# Altium integrated library Actel eX.IntLib: 132 symbols (part 2 of 6)
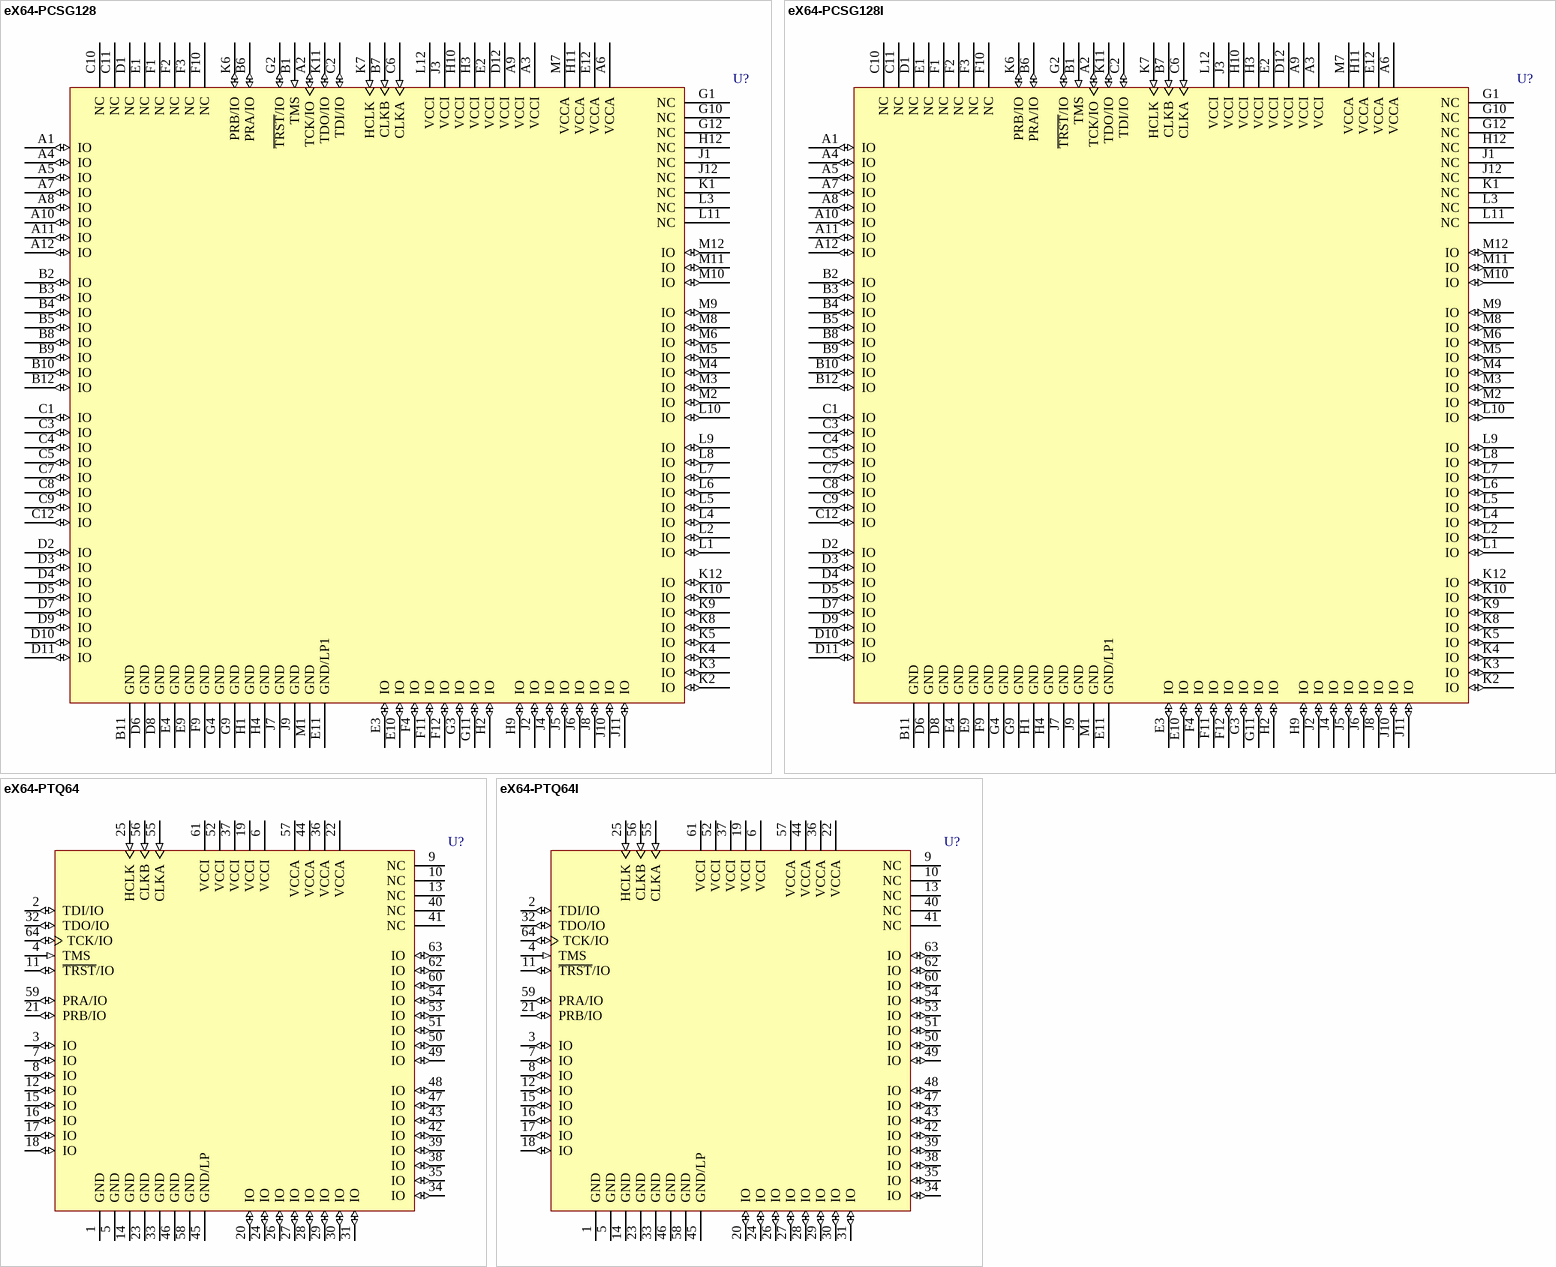
[diagram p39: symbols eX64-PCSG128 to eX64-PTQ64I]

## eX64-PCSG128
designator U?
eX64 FPGA, 84 User IOs, 128-Pin CSP, Speed Grade P, Commercial Grade, Pb-Free; DatasheetVersion: v4.3, Jun-2006; PackageVersion: ver11.2, Nov-2009; PackageReference: CS128; PackageDescription: 128-Ball Chip Scale Package (CS128); Code_JEDEC: MO-205-BD; ComponentLink1Description: Manufacturer URL; ComponentLink1URL: http://www.actel.com/; ComponentLink2Description: eX Datasheet; ComponentLink2URL: http://www.actel.com/documents/eX_DS.pdf; ComponentLink3Description: Package Mechanical Drawings; ComponentLink3URL: http://www.actel.com/documents/PckgMechDrwngs.pdf; ComponentLink4Description: eX Documents; ComponentLink4URL: http://www.actel.com/products/ex/docs.aspx
footprint CS128 (BGA, 128-Leads, Body 11x11mm, Pitch 0.8mm)
pins: A1 IO (io), A2 TCK/IO (io), A3 VCCI (power), A4 IO (io), A5 IO (io), A6 VCCA (power), A7 IO (io), A8 IO (io), A9 VCCI (power), A10 IO (io), A11 IO (io), A12 IO (io), B1 TMS (in), B2 IO (io), B3 IO (io), B4 IO (io), B5 IO (io), B6 PRA/IO (io), B7 CLKB (in), B8 IO (io), B9 IO (io), B10 IO (io), B11 GND (power), B12 IO (io), C1 IO (io), C2 TDI/IO (io), C3 IO (io), C4 IO (io), C5 IO (io), C6 CLKA (in), C7 IO (io), C8 IO (io), C9 IO (io), C10 NC, C11 NC, C12 IO (io), D1 NC, D2 IO (io), D3 IO (io), D4 IO (io), D5 IO (io), D6 GND (power), D7 IO (io), D8 GND (power), D9 IO (io), D10 IO (io), D11 IO (io), D12 VCCI (power), E1 NC, E2 VCCI (power), E3 IO (io), E4 GND (power), E9 GND (power), E10 IO (io), E11 GND/LP1 (power), E12 VCCA (power), F1 NC, F2 NC, F3 NC, F4 IO (io), F9 GND (power), F10 NC, F11 IO (io), F12 IO (io), G1 NC, G2 ~{TRST}/IO (io), G3 IO (io), G4 GND (power), G9 GND (power), G10 NC, G11 IO (io), G12 NC, H1 GND (power), H2 IO (io), H3 VCCI (power), H4 GND (power), H9 IO (io), H10 VCCI (power), H11 VCCA (power), H12 NC, J1 NC, J2 IO (io), J3 VCCI (power), J4 IO (io), J5 IO (io), J6 IO (io), J7 GND (power), J8 IO (io), J9 GND (power), J10 IO (io), J11 IO (io), J12 NC, K1 NC, K2 IO (io), K3 IO (io), K4 IO (io), K5 IO (io), K6 PRB/IO (io), K7 HCLK (in), K8 IO (io), K9 IO (io), K10 IO (io), K11 TDO/IO (io), K12 IO (io), L1 IO (io), L2 IO (io), L3 NC, L4 IO (io), L5 IO (io), L6 IO (io), L7 IO (io), L8 IO (io), L9 IO (io), L10 IO (io), L11 NC, L12 VCCI (power), M1 GND (power), M2 IO (io), M3 IO (io), M4 IO (io), M5 IO (io), M6 IO (io), M7 VCCA (power), M8 IO (io), M9 IO (io), M10 IO (io), M11 IO (io), M12 IO (io)

## eX64-PCSG128I
designator U?
eX64 FPGA, 84 User IOs, 128-Pin CSP, Speed Grade P, Industrial Grade, Pb-Free; DatasheetVersion: v4.3, Jun-2006; PackageVersion: ver11.2, Nov-2009; PackageReference: CS128; PackageDescription: 128-Ball Chip Scale Package (CS128); Code_JEDEC: MO-205-BD; ComponentLink1Description: Manufacturer URL; ComponentLink1URL: http://www.actel.com/; ComponentLink2Description: eX Datasheet; ComponentLink2URL: http://www.actel.com/documents/eX_DS.pdf; ComponentLink3Description: Package Mechanical Drawings; ComponentLink3URL: http://www.actel.com/documents/PckgMechDrwngs.pdf; ComponentLink4Description: eX Documents; ComponentLink4URL: http://www.actel.com/products/ex/docs.aspx
footprint CS128 (BGA, 128-Leads, Body 11x11mm, Pitch 0.8mm)
pins: A1 IO (io), A2 TCK/IO (io), A3 VCCI (power), A4 IO (io), A5 IO (io), A6 VCCA (power), A7 IO (io), A8 IO (io), A9 VCCI (power), A10 IO (io), A11 IO (io), A12 IO (io), B1 TMS (in), B2 IO (io), B3 IO (io), B4 IO (io), B5 IO (io), B6 PRA/IO (io), B7 CLKB (in), B8 IO (io), B9 IO (io), B10 IO (io), B11 GND (power), B12 IO (io), C1 IO (io), C2 TDI/IO (io), C3 IO (io), C4 IO (io), C5 IO (io), C6 CLKA (in), C7 IO (io), C8 IO (io), C9 IO (io), C10 NC, C11 NC, C12 IO (io), D1 NC, D2 IO (io), D3 IO (io), D4 IO (io), D5 IO (io), D6 GND (power), D7 IO (io), D8 GND (power), D9 IO (io), D10 IO (io), D11 IO (io), D12 VCCI (power), E1 NC, E2 VCCI (power), E3 IO (io), E4 GND (power), E9 GND (power), E10 IO (io), E11 GND/LP1 (power), E12 VCCA (power), F1 NC, F2 NC, F3 NC, F4 IO (io), F9 GND (power), F10 NC, F11 IO (io), F12 IO (io), G1 NC, G2 ~{TRST}/IO (io), G3 IO (io), G4 GND (power), G9 GND (power), G10 NC, G11 IO (io), G12 NC, H1 GND (power), H2 IO (io), H3 VCCI (power), H4 GND (power), H9 IO (io), H10 VCCI (power), H11 VCCA (power), H12 NC, J1 NC, J2 IO (io), J3 VCCI (power), J4 IO (io), J5 IO (io), J6 IO (io), J7 GND (power), J8 IO (io), J9 GND (power), J10 IO (io), J11 IO (io), J12 NC, K1 NC, K2 IO (io), K3 IO (io), K4 IO (io), K5 IO (io), K6 PRB/IO (io), K7 HCLK (in), K8 IO (io), K9 IO (io), K10 IO (io), K11 TDO/IO (io), K12 IO (io), L1 IO (io), L2 IO (io), L3 NC, L4 IO (io), L5 IO (io), L6 IO (io), L7 IO (io), L8 IO (io), L9 IO (io), L10 IO (io), L11 NC, L12 VCCI (power), M1 GND (power), M2 IO (io), M3 IO (io), M4 IO (io), M5 IO (io), M6 IO (io), M7 VCCA (power), M8 IO (io), M9 IO (io), M10 IO (io), M11 IO (io), M12 IO (io)

## eX64-PTQ64
designator U?
eX64 FPGA, 41 User IOs, 64-Pin TQFP, Speed Grade P, Commercial Grade; DatasheetVersion: v4.3, Jun-2006; PackageVersion: ver11.2, Nov-2009; PackageReference: TQ64; PackageDescription: 64-Pin Plastic Quad Flat Pack (TQ64); Code_JEDEC: MS-026-BCD; ComponentLink1Description: Manufacturer URL; ComponentLink1URL: http://www.actel.com/; ComponentLink2Description: eX Datasheet; ComponentLink2URL: http://www.actel.com/documents/eX_DS.pdf; ComponentLink3Description: Package Mechanical Drawings; ComponentLink3URL: http://www.actel.com/documents/PckgMechDrwngs.pdf; ComponentLink4Description: eX Documents; ComponentLink4URL: http://www.actel.com/products/ex/docs.aspx
footprint TQ64_N (Thin QFP, 64-Leads, Body 10x10mm, Pitch 0.5mm, IPC Medium Density)
footprint TQ64_L (Thin QFP, 64-Leads, Body 10x10mm, Pitch 0.5mm, IPC High Density)
footprint TQ64_M (Thin QFP, 64-Leads, Body 10x10mm, Pitch 0.5mm, IPC Low Density)
pins: 1 GND (power), 2 TDI/IO (io), 3 IO (io), 4 TMS (in), 5 GND (power), 6 VCCI (power), 7 IO (io), 8 IO (io), 9 NC, 10 NC, 11 ~{TRST}/IO (io), 12 IO (io), 13 NC, 14 GND (power), 15 IO (io), 16 IO (io), 17 IO (io), 18 IO (io), 19 VCCI (power), 20 IO (io), 21 PRB/IO (io), 22 VCCA (power), 23 GND (power), 24 IO (io), 25 HCLK (in), 26 IO (io), 27 IO (io), 28 IO (io), 29 IO (io), 30 IO (io), 31 IO (io), 32 TDO/IO (io), 33 GND (power), 34 IO (io), 35 IO (io), 36 VCCA (power), 37 VCCI (power), 38 IO (io), 39 IO (io), 40 NC, 41 NC, 42 IO (io), 43 IO (io), 44 VCCA (power), 45 GND/LP (power), 46 GND (power), 47 IO (io), 48 IO (io), 49 IO (io), 50 IO (io), 51 IO (io), 52 VCCI (power), 53 IO (io), 54 IO (io), 55 CLKA (in), 56 CLKB (in), 57 VCCA (power), 58 GND (power), 59 PRA/IO (io), 60 IO (io), 61 VCCI (power), 62 IO (io), 63 IO (io), 64 TCK/IO (io)

## eX64-PTQ64I
designator U?
eX64 FPGA, 41 User IOs, 64-Pin TQFP, Speed Grade P, Industrial Grade; DatasheetVersion: v4.3, Jun-2006; PackageVersion: ver11.2, Nov-2009; PackageReference: TQ64; PackageDescription: 64-Pin Plastic Quad Flat Pack (TQ64); Code_JEDEC: MS-026-BCD; ComponentLink1Description: Manufacturer URL; ComponentLink1URL: http://www.actel.com/; ComponentLink2Description: eX Datasheet; ComponentLink2URL: http://www.actel.com/documents/eX_DS.pdf; ComponentLink3Description: Package Mechanical Drawings; ComponentLink3URL: http://www.actel.com/documents/PckgMechDrwngs.pdf; ComponentLink4Description: eX Documents; ComponentLink4URL: http://www.actel.com/products/ex/docs.aspx
footprint TQ64_N (Thin QFP, 64-Leads, Body 10x10mm, Pitch 0.5mm, IPC Medium Density)
footprint TQ64_L (Thin QFP, 64-Leads, Body 10x10mm, Pitch 0.5mm, IPC High Density)
footprint TQ64_M (Thin QFP, 64-Leads, Body 10x10mm, Pitch 0.5mm, IPC Low Density)
pins: 1 GND (power), 2 TDI/IO (io), 3 IO (io), 4 TMS (in), 5 GND (power), 6 VCCI (power), 7 IO (io), 8 IO (io), 9 NC, 10 NC, 11 ~{TRST}/IO (io), 12 IO (io), 13 NC, 14 GND (power), 15 IO (io), 16 IO (io), 17 IO (io), 18 IO (io), 19 VCCI (power), 20 IO (io), 21 PRB/IO (io), 22 VCCA (power), 23 GND (power), 24 IO (io), 25 HCLK (in), 26 IO (io), 27 IO (io), 28 IO (io), 29 IO (io), 30 IO (io), 31 IO (io), 32 TDO/IO (io), 33 GND (power), 34 IO (io), 35 IO (io), 36 VCCA (power), 37 VCCI (power), 38 IO (io), 39 IO (io), 40 NC, 41 NC, 42 IO (io), 43 IO (io), 44 VCCA (power), 45 GND/LP (power), 46 GND (power), 47 IO (io), 48 IO (io), 49 IO (io), 50 IO (io), 51 IO (io), 52 VCCI (power), 53 IO (io), 54 IO (io), 55 CLKA (in), 56 CLKB (in), 57 VCCA (power), 58 GND (power), 59 PRA/IO (io), 60 IO (io), 61 VCCI (power), 62 IO (io), 63 IO (io), 64 TCK/IO (io)

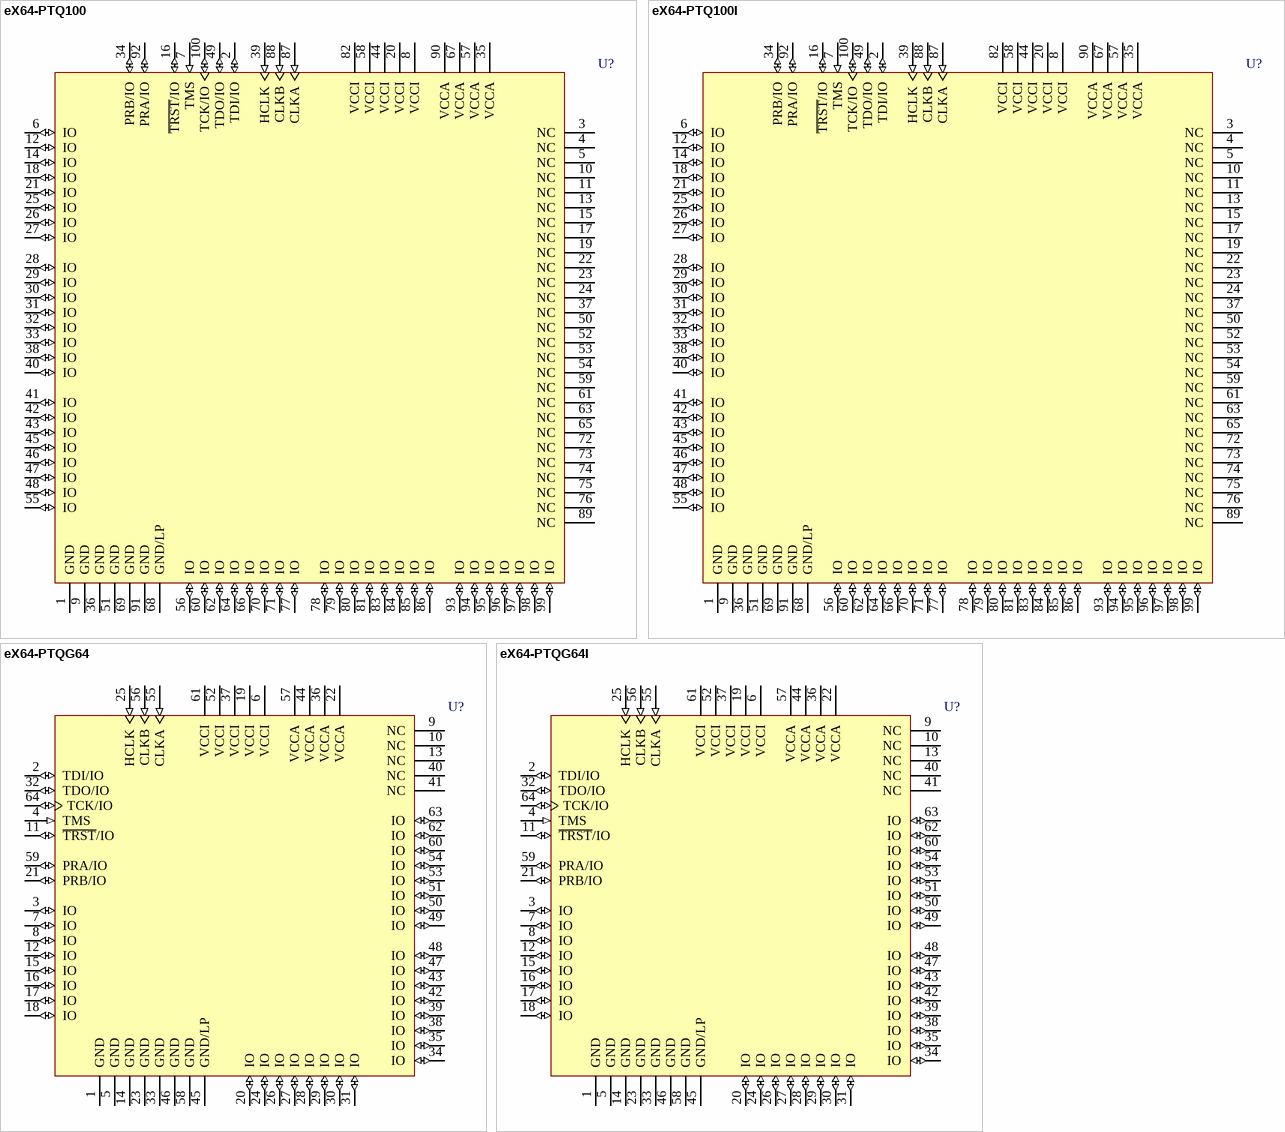
[diagram p7: symbols eX64-PTQ100 to eX64-PTQG64I]

## eX64-PTQ100
designator U?
eX64 FPGA, 56 User IOs, 100-Pin TQFP, Speed Grade P, Commercial Grade; DatasheetVersion: v4.3, Jun-2006; PackageVersion: ver11.2, Nov-2009; PackageReference: TQ100; PackageDescription: 100-Pin Plastic Quad Flat Pack (TQ100); Code_JEDEC: MS-026-BED; ComponentLink1Description: Manufacturer URL; ComponentLink1URL: http://www.actel.com/; ComponentLink2Description: eX Datasheet; ComponentLink2URL: http://www.actel.com/documents/eX_DS.pdf; ComponentLink3Description: Package Mechanical Drawings; ComponentLink3URL: http://www.actel.com/documents/PckgMechDrwngs.pdf; ComponentLink4Description: eX Documents; ComponentLink4URL: http://www.actel.com/products/ex/docs.aspx
footprint TQ100_N (Thin QFP, 100-Leads, Body 14x14mm, Pitch 0.5mm, IPC Medium Density)
footprint TQ100_L (Thin QFP, 100-Leads, Body 14x14mm, Pitch 0.5mm, IPC High Density)
footprint TQ100_M (Thin QFP, 100-Leads, Body 14x14mm, Pitch 0.5mm, IPC Low Density)
pins: 1 GND (power), 2 TDI/IO (io), 3 NC, 4 NC, 5 NC, 6 IO (io), 7 TMS (in), 8 VCCI (power), 9 GND (power), 10 NC, 11 NC, 12 IO (io), 13 NC, 14 IO (io), 15 NC, 16 ~{TRST}/IO (io), 17 NC, 18 IO (io), 19 NC, 20 VCCI (power), 21 IO (io), 22 NC, 23 NC, 24 NC, 25 IO (io), 26 IO (io), 27 IO (io), 28 IO (io), 29 IO (io), 30 IO (io), 31 IO (io), 32 IO (io), 33 IO (io), 34 PRB/IO (io), 35 VCCA (power), 36 GND (power), 37 NC, 38 IO (io), 39 HCLK (in), 40 IO (io), 41 IO (io), 42 IO (io), 43 IO (io), 44 VCCI (power), 45 IO (io), 46 IO (io), 47 IO (io), 48 IO (io), 49 TDO/IO (io), 50 NC, 51 GND (power), 52 NC, 53 NC, 54 NC, 55 IO (io), 56 IO (io), 57 VCCA (power), 58 VCCI (power), 59 NC, 60 IO (io), 61 NC, 62 IO (io), 63 NC, 64 IO (io), 65 NC, 66 IO (io), 67 VCCA (power), 68 GND/LP (power), 69 GND (power), 70 IO (io), 71 IO (io), 72 NC, 73 NC, 74 NC, 75 NC, 76 NC, 77 IO (io), 78 IO (io), 79 IO (io), 80 IO (io), 81 IO (io), 82 VCCI (power), 83 IO (io), 84 IO (io), 85 IO (io), 86 IO (io), 87 CLKA (in), 88 CLKB (in), 89 NC, 90 VCCA (power), 91 GND (power), 92 PRA/IO (io), 93 IO (io), 94 IO (io), 95 IO (io), 96 IO (io), 97 IO (io), 98 IO (io), 99 IO (io), 100 TCK/IO (io)

## eX64-PTQ100I
designator U?
eX64 FPGA, 56 User IOs, 100-Pin TQFP, Speed Grade P, Industrial Grade; DatasheetVersion: v4.3, Jun-2006; PackageVersion: ver11.2, Nov-2009; PackageReference: TQ100; PackageDescription: 100-Pin Plastic Quad Flat Pack (TQ100); Code_JEDEC: MS-026-BED; ComponentLink1Description: Manufacturer URL; ComponentLink1URL: http://www.actel.com/; ComponentLink2Description: eX Datasheet; ComponentLink2URL: http://www.actel.com/documents/eX_DS.pdf; ComponentLink3Description: Package Mechanical Drawings; ComponentLink3URL: http://www.actel.com/documents/PckgMechDrwngs.pdf; ComponentLink4Description: eX Documents; ComponentLink4URL: http://www.actel.com/products/ex/docs.aspx
footprint TQ100_N (Thin QFP, 100-Leads, Body 14x14mm, Pitch 0.5mm, IPC Medium Density)
footprint TQ100_L (Thin QFP, 100-Leads, Body 14x14mm, Pitch 0.5mm, IPC High Density)
footprint TQ100_M (Thin QFP, 100-Leads, Body 14x14mm, Pitch 0.5mm, IPC Low Density)
pins: 1 GND (power), 2 TDI/IO (io), 3 NC, 4 NC, 5 NC, 6 IO (io), 7 TMS (in), 8 VCCI (power), 9 GND (power), 10 NC, 11 NC, 12 IO (io), 13 NC, 14 IO (io), 15 NC, 16 ~{TRST}/IO (io), 17 NC, 18 IO (io), 19 NC, 20 VCCI (power), 21 IO (io), 22 NC, 23 NC, 24 NC, 25 IO (io), 26 IO (io), 27 IO (io), 28 IO (io), 29 IO (io), 30 IO (io), 31 IO (io), 32 IO (io), 33 IO (io), 34 PRB/IO (io), 35 VCCA (power), 36 GND (power), 37 NC, 38 IO (io), 39 HCLK (in), 40 IO (io), 41 IO (io), 42 IO (io), 43 IO (io), 44 VCCI (power), 45 IO (io), 46 IO (io), 47 IO (io), 48 IO (io), 49 TDO/IO (io), 50 NC, 51 GND (power), 52 NC, 53 NC, 54 NC, 55 IO (io), 56 IO (io), 57 VCCA (power), 58 VCCI (power), 59 NC, 60 IO (io), 61 NC, 62 IO (io), 63 NC, 64 IO (io), 65 NC, 66 IO (io), 67 VCCA (power), 68 GND/LP (power), 69 GND (power), 70 IO (io), 71 IO (io), 72 NC, 73 NC, 74 NC, 75 NC, 76 NC, 77 IO (io), 78 IO (io), 79 IO (io), 80 IO (io), 81 IO (io), 82 VCCI (power), 83 IO (io), 84 IO (io), 85 IO (io), 86 IO (io), 87 CLKA (in), 88 CLKB (in), 89 NC, 90 VCCA (power), 91 GND (power), 92 PRA/IO (io), 93 IO (io), 94 IO (io), 95 IO (io), 96 IO (io), 97 IO (io), 98 IO (io), 99 IO (io), 100 TCK/IO (io)

## eX64-PTQG64
designator U?
eX64 FPGA, 41 User IOs, 64-Pin TQFP, Speed Grade P, Commercial Grade, Pb-Free; DatasheetVersion: v4.3, Jun-2006; PackageVersion: ver11.2, Nov-2009; PackageReference: TQ64; PackageDescription: 64-Pin Plastic Quad Flat Pack (TQ64); Code_JEDEC: MS-026-BCD; ComponentLink1Description: Manufacturer URL; ComponentLink1URL: http://www.actel.com/; ComponentLink2Description: eX Datasheet; ComponentLink2URL: http://www.actel.com/documents/eX_DS.pdf; ComponentLink3Description: Package Mechanical Drawings; ComponentLink3URL: http://www.actel.com/documents/PckgMechDrwngs.pdf; ComponentLink4Description: eX Documents; ComponentLink4URL: http://www.actel.com/products/ex/docs.aspx
footprint TQ64_N (Thin QFP, 64-Leads, Body 10x10mm, Pitch 0.5mm, IPC Medium Density)
footprint TQ64_L (Thin QFP, 64-Leads, Body 10x10mm, Pitch 0.5mm, IPC High Density)
footprint TQ64_M (Thin QFP, 64-Leads, Body 10x10mm, Pitch 0.5mm, IPC Low Density)
pins: 1 GND (power), 2 TDI/IO (io), 3 IO (io), 4 TMS (in), 5 GND (power), 6 VCCI (power), 7 IO (io), 8 IO (io), 9 NC, 10 NC, 11 ~{TRST}/IO (io), 12 IO (io), 13 NC, 14 GND (power), 15 IO (io), 16 IO (io), 17 IO (io), 18 IO (io), 19 VCCI (power), 20 IO (io), 21 PRB/IO (io), 22 VCCA (power), 23 GND (power), 24 IO (io), 25 HCLK (in), 26 IO (io), 27 IO (io), 28 IO (io), 29 IO (io), 30 IO (io), 31 IO (io), 32 TDO/IO (io), 33 GND (power), 34 IO (io), 35 IO (io), 36 VCCA (power), 37 VCCI (power), 38 IO (io), 39 IO (io), 40 NC, 41 NC, 42 IO (io), 43 IO (io), 44 VCCA (power), 45 GND/LP (power), 46 GND (power), 47 IO (io), 48 IO (io), 49 IO (io), 50 IO (io), 51 IO (io), 52 VCCI (power), 53 IO (io), 54 IO (io), 55 CLKA (in), 56 CLKB (in), 57 VCCA (power), 58 GND (power), 59 PRA/IO (io), 60 IO (io), 61 VCCI (power), 62 IO (io), 63 IO (io), 64 TCK/IO (io)

## eX64-PTQG64I
designator U?
eX64 FPGA, 41 User IOs, 64-Pin TQFP, Speed Grade P, Industrial Grade, Pb-Free; DatasheetVersion: v4.3, Jun-2006; PackageVersion: ver11.2, Nov-2009; PackageReference: TQ64; PackageDescription: 64-Pin Plastic Quad Flat Pack (TQ64); Code_JEDEC: MS-026-BCD; ComponentLink1Description: Manufacturer URL; ComponentLink1URL: http://www.actel.com/; ComponentLink2Description: eX Datasheet; ComponentLink2URL: http://www.actel.com/documents/eX_DS.pdf; ComponentLink3Description: Package Mechanical Drawings; ComponentLink3URL: http://www.actel.com/documents/PckgMechDrwngs.pdf; ComponentLink4Description: eX Documents; ComponentLink4URL: http://www.actel.com/products/ex/docs.aspx
footprint TQ64_N (Thin QFP, 64-Leads, Body 10x10mm, Pitch 0.5mm, IPC Medium Density)
footprint TQ64_L (Thin QFP, 64-Leads, Body 10x10mm, Pitch 0.5mm, IPC High Density)
footprint TQ64_M (Thin QFP, 64-Leads, Body 10x10mm, Pitch 0.5mm, IPC Low Density)
pins: 1 GND (power), 2 TDI/IO (io), 3 IO (io), 4 TMS (in), 5 GND (power), 6 VCCI (power), 7 IO (io), 8 IO (io), 9 NC, 10 NC, 11 ~{TRST}/IO (io), 12 IO (io), 13 NC, 14 GND (power), 15 IO (io), 16 IO (io), 17 IO (io), 18 IO (io), 19 VCCI (power), 20 IO (io), 21 PRB/IO (io), 22 VCCA (power), 23 GND (power), 24 IO (io), 25 HCLK (in), 26 IO (io), 27 IO (io), 28 IO (io), 29 IO (io), 30 IO (io), 31 IO (io), 32 TDO/IO (io), 33 GND (power), 34 IO (io), 35 IO (io), 36 VCCA (power), 37 VCCI (power), 38 IO (io), 39 IO (io), 40 NC, 41 NC, 42 IO (io), 43 IO (io), 44 VCCA (power), 45 GND/LP (power), 46 GND (power), 47 IO (io), 48 IO (io), 49 IO (io), 50 IO (io), 51 IO (io), 52 VCCI (power), 53 IO (io), 54 IO (io), 55 CLKA (in), 56 CLKB (in), 57 VCCA (power), 58 GND (power), 59 PRA/IO (io), 60 IO (io), 61 VCCI (power), 62 IO (io), 63 IO (io), 64 TCK/IO (io)

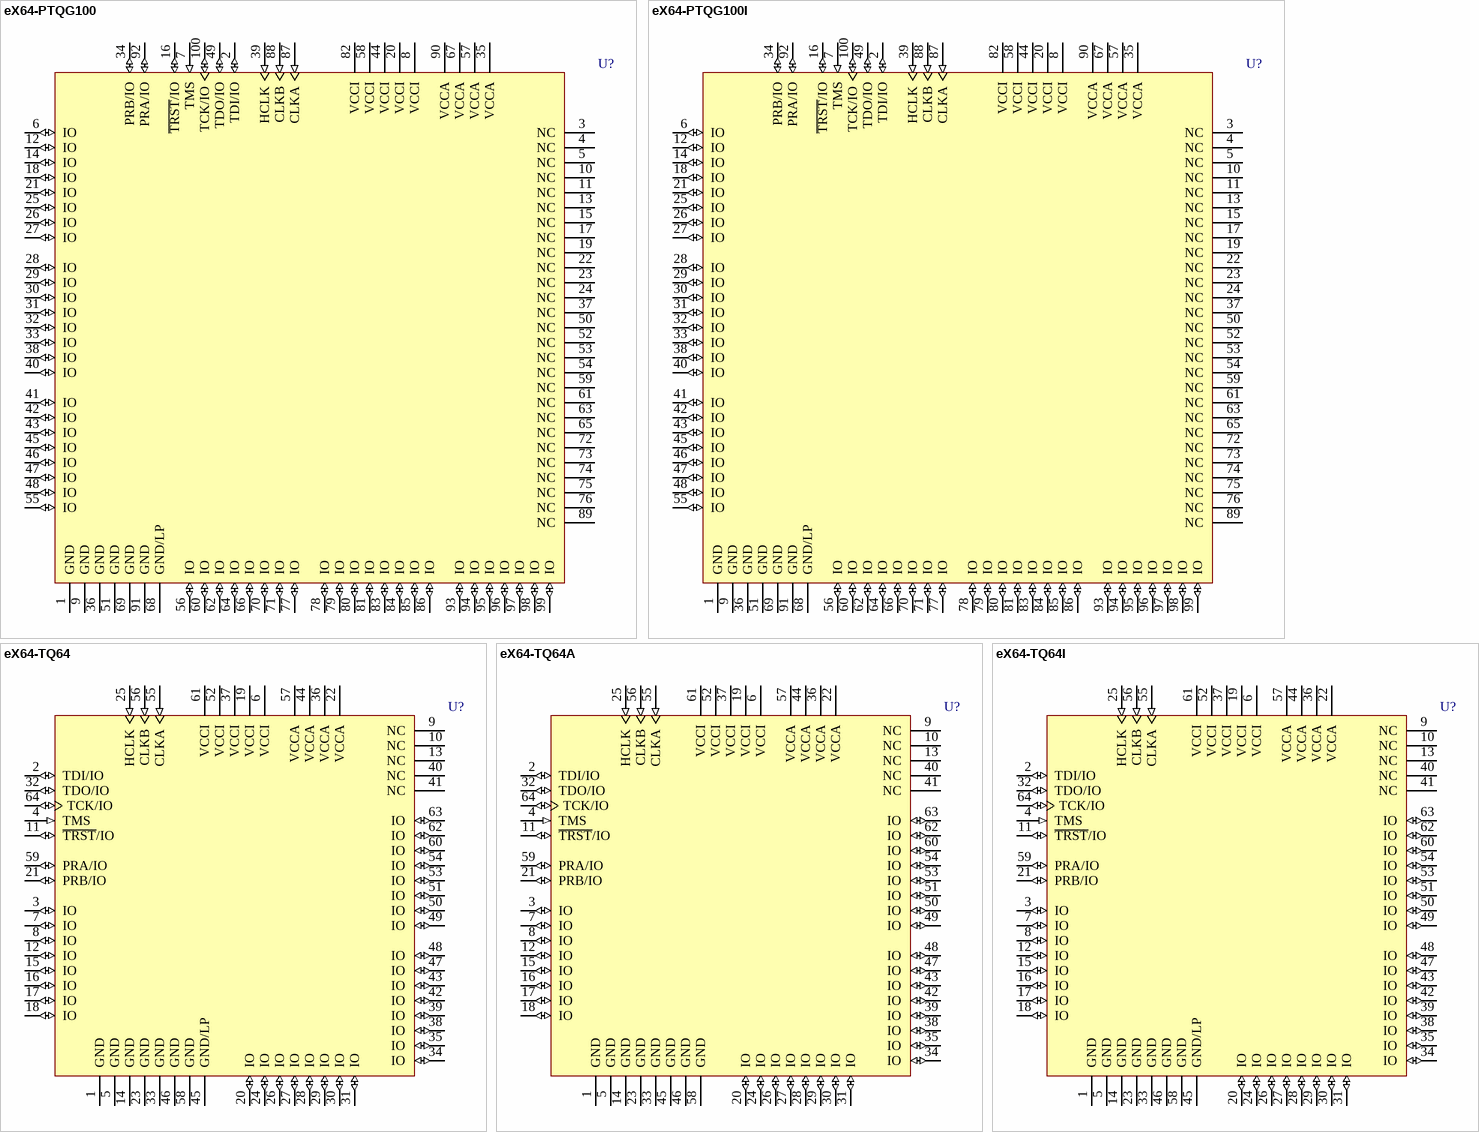
[diagram p8: symbols eX64-PTQG100 to eX64-TQ64I]

## eX64-PTQG100
designator U?
eX64 FPGA, 56 User IOs, 100-Pin TQFP, Speed Grade P, Commercial Grade, Pb-Free; DatasheetVersion: v4.3, Jun-2006; PackageVersion: ver11.2, Nov-2009; PackageReference: TQ100; PackageDescription: 100-Pin Plastic Quad Flat Pack (TQ100); Code_JEDEC: MS-026-BED; ComponentLink1Description: Manufacturer URL; ComponentLink1URL: http://www.actel.com/; ComponentLink2Description: eX Datasheet; ComponentLink2URL: http://www.actel.com/documents/eX_DS.pdf; ComponentLink3Description: Package Mechanical Drawings; ComponentLink3URL: http://www.actel.com/documents/PckgMechDrwngs.pdf; ComponentLink4Description: eX Documents; ComponentLink4URL: http://www.actel.com/products/ex/docs.aspx
footprint TQ100_N (Thin QFP, 100-Leads, Body 14x14mm, Pitch 0.5mm, IPC Medium Density)
footprint TQ100_L (Thin QFP, 100-Leads, Body 14x14mm, Pitch 0.5mm, IPC High Density)
footprint TQ100_M (Thin QFP, 100-Leads, Body 14x14mm, Pitch 0.5mm, IPC Low Density)
pins: 1 GND (power), 2 TDI/IO (io), 3 NC, 4 NC, 5 NC, 6 IO (io), 7 TMS (in), 8 VCCI (power), 9 GND (power), 10 NC, 11 NC, 12 IO (io), 13 NC, 14 IO (io), 15 NC, 16 ~{TRST}/IO (io), 17 NC, 18 IO (io), 19 NC, 20 VCCI (power), 21 IO (io), 22 NC, 23 NC, 24 NC, 25 IO (io), 26 IO (io), 27 IO (io), 28 IO (io), 29 IO (io), 30 IO (io), 31 IO (io), 32 IO (io), 33 IO (io), 34 PRB/IO (io), 35 VCCA (power), 36 GND (power), 37 NC, 38 IO (io), 39 HCLK (in), 40 IO (io), 41 IO (io), 42 IO (io), 43 IO (io), 44 VCCI (power), 45 IO (io), 46 IO (io), 47 IO (io), 48 IO (io), 49 TDO/IO (io), 50 NC, 51 GND (power), 52 NC, 53 NC, 54 NC, 55 IO (io), 56 IO (io), 57 VCCA (power), 58 VCCI (power), 59 NC, 60 IO (io), 61 NC, 62 IO (io), 63 NC, 64 IO (io), 65 NC, 66 IO (io), 67 VCCA (power), 68 GND/LP (power), 69 GND (power), 70 IO (io), 71 IO (io), 72 NC, 73 NC, 74 NC, 75 NC, 76 NC, 77 IO (io), 78 IO (io), 79 IO (io), 80 IO (io), 81 IO (io), 82 VCCI (power), 83 IO (io), 84 IO (io), 85 IO (io), 86 IO (io), 87 CLKA (in), 88 CLKB (in), 89 NC, 90 VCCA (power), 91 GND (power), 92 PRA/IO (io), 93 IO (io), 94 IO (io), 95 IO (io), 96 IO (io), 97 IO (io), 98 IO (io), 99 IO (io), 100 TCK/IO (io)

## eX64-PTQG100I
designator U?
eX64 FPGA, 56 User IOs, 100-Pin TQFP, Speed Grade P, Industrial Grade, Pb-Free; DatasheetVersion: v4.3, Jun-2006; PackageVersion: ver11.2, Nov-2009; PackageReference: TQ100; PackageDescription: 100-Pin Plastic Quad Flat Pack (TQ100); Code_JEDEC: MS-026-BED; ComponentLink1Description: Manufacturer URL; ComponentLink1URL: http://www.actel.com/; ComponentLink2Description: eX Datasheet; ComponentLink2URL: http://www.actel.com/documents/eX_DS.pdf; ComponentLink3Description: Package Mechanical Drawings; ComponentLink3URL: http://www.actel.com/documents/PckgMechDrwngs.pdf; ComponentLink4Description: eX Documents; ComponentLink4URL: http://www.actel.com/products/ex/docs.aspx
footprint TQ100_N (Thin QFP, 100-Leads, Body 14x14mm, Pitch 0.5mm, IPC Medium Density)
footprint TQ100_L (Thin QFP, 100-Leads, Body 14x14mm, Pitch 0.5mm, IPC High Density)
footprint TQ100_M (Thin QFP, 100-Leads, Body 14x14mm, Pitch 0.5mm, IPC Low Density)
pins: 1 GND (power), 2 TDI/IO (io), 3 NC, 4 NC, 5 NC, 6 IO (io), 7 TMS (in), 8 VCCI (power), 9 GND (power), 10 NC, 11 NC, 12 IO (io), 13 NC, 14 IO (io), 15 NC, 16 ~{TRST}/IO (io), 17 NC, 18 IO (io), 19 NC, 20 VCCI (power), 21 IO (io), 22 NC, 23 NC, 24 NC, 25 IO (io), 26 IO (io), 27 IO (io), 28 IO (io), 29 IO (io), 30 IO (io), 31 IO (io), 32 IO (io), 33 IO (io), 34 PRB/IO (io), 35 VCCA (power), 36 GND (power), 37 NC, 38 IO (io), 39 HCLK (in), 40 IO (io), 41 IO (io), 42 IO (io), 43 IO (io), 44 VCCI (power), 45 IO (io), 46 IO (io), 47 IO (io), 48 IO (io), 49 TDO/IO (io), 50 NC, 51 GND (power), 52 NC, 53 NC, 54 NC, 55 IO (io), 56 IO (io), 57 VCCA (power), 58 VCCI (power), 59 NC, 60 IO (io), 61 NC, 62 IO (io), 63 NC, 64 IO (io), 65 NC, 66 IO (io), 67 VCCA (power), 68 GND/LP (power), 69 GND (power), 70 IO (io), 71 IO (io), 72 NC, 73 NC, 74 NC, 75 NC, 76 NC, 77 IO (io), 78 IO (io), 79 IO (io), 80 IO (io), 81 IO (io), 82 VCCI (power), 83 IO (io), 84 IO (io), 85 IO (io), 86 IO (io), 87 CLKA (in), 88 CLKB (in), 89 NC, 90 VCCA (power), 91 GND (power), 92 PRA/IO (io), 93 IO (io), 94 IO (io), 95 IO (io), 96 IO (io), 97 IO (io), 98 IO (io), 99 IO (io), 100 TCK/IO (io)

## eX64-TQ64
designator U?
eX64 FPGA, 41 User IOs, 64-Pin TQFP, Speed Grade Standard, Commercial Grade; DatasheetVersion: v4.3, Jun-2006; PackageVersion: ver11.2, Nov-2009; PackageReference: TQ64; PackageDescription: 64-Pin Plastic Quad Flat Pack (TQ64); Code_JEDEC: MS-026-BCD; ComponentLink1Description: Manufacturer URL; ComponentLink1URL: http://www.actel.com/; ComponentLink2Description: eX Datasheet; ComponentLink2URL: http://www.actel.com/documents/eX_DS.pdf; ComponentLink3Description: Package Mechanical Drawings; ComponentLink3URL: http://www.actel.com/documents/PckgMechDrwngs.pdf; ComponentLink4Description: eX Documents; ComponentLink4URL: http://www.actel.com/products/ex/docs.aspx
footprint TQ64_N (Thin QFP, 64-Leads, Body 10x10mm, Pitch 0.5mm, IPC Medium Density)
footprint TQ64_L (Thin QFP, 64-Leads, Body 10x10mm, Pitch 0.5mm, IPC High Density)
footprint TQ64_M (Thin QFP, 64-Leads, Body 10x10mm, Pitch 0.5mm, IPC Low Density)
pins: 1 GND (power), 2 TDI/IO (io), 3 IO (io), 4 TMS (in), 5 GND (power), 6 VCCI (power), 7 IO (io), 8 IO (io), 9 NC, 10 NC, 11 ~{TRST}/IO (io), 12 IO (io), 13 NC, 14 GND (power), 15 IO (io), 16 IO (io), 17 IO (io), 18 IO (io), 19 VCCI (power), 20 IO (io), 21 PRB/IO (io), 22 VCCA (power), 23 GND (power), 24 IO (io), 25 HCLK (in), 26 IO (io), 27 IO (io), 28 IO (io), 29 IO (io), 30 IO (io), 31 IO (io), 32 TDO/IO (io), 33 GND (power), 34 IO (io), 35 IO (io), 36 VCCA (power), 37 VCCI (power), 38 IO (io), 39 IO (io), 40 NC, 41 NC, 42 IO (io), 43 IO (io), 44 VCCA (power), 45 GND/LP (power), 46 GND (power), 47 IO (io), 48 IO (io), 49 IO (io), 50 IO (io), 51 IO (io), 52 VCCI (power), 53 IO (io), 54 IO (io), 55 CLKA (in), 56 CLKB (in), 57 VCCA (power), 58 GND (power), 59 PRA/IO (io), 60 IO (io), 61 VCCI (power), 62 IO (io), 63 IO (io), 64 TCK/IO (io)

## eX64-TQ64A
designator U?
eX64 FPGA, 41 User IOs, 64-Pin TQFP, Speed Grade Standard, Automotive Grade; DatasheetVersion: v3.2, Jun-2006; PackageVersion: ver11.2, Nov-2009; PackageReference: TQ64; PackageDescription: 64-Pin Plastic Quad Flat Pack (TQ64); Code_JEDEC: MS-026-BCD; ComponentLink1Description: Manufacturer URL; ComponentLink1URL: http://www.actel.com/; ComponentLink2Description: eX Datasheet; ComponentLink2URL: http://www.actel.com/documents/MX_Auto_DS.pdf; ComponentLink3Description: Package Mechanical Drawings; ComponentLink3URL: http://www.actel.com/documents/PckgMechDrwngs.pdf; ComponentLink4Description: eX Documents; ComponentLink4URL: http://www.actel.com/products/ex/docs.aspx
footprint TQ64_N (Thin QFP, 64-Leads, Body 10x10mm, Pitch 0.5mm, IPC Medium Density)
footprint TQ64_L (Thin QFP, 64-Leads, Body 10x10mm, Pitch 0.5mm, IPC High Density)
footprint TQ64_M (Thin QFP, 64-Leads, Body 10x10mm, Pitch 0.5mm, IPC Low Density)
pins: 1 GND (power), 2 TDI/IO (io), 3 IO (io), 4 TMS (in), 5 GND (power), 6 VCCI (power), 7 IO (io), 8 IO (io), 9 NC, 10 NC, 11 ~{TRST}/IO (io), 12 IO (io), 13 NC, 14 GND (power), 15 IO (io), 16 IO (io), 17 IO (io), 18 IO (io), 19 VCCI (power), 20 IO (io), 21 PRB/IO (io), 22 VCCA (power), 23 GND (power), 24 IO (io), 25 HCLK (in), 26 IO (io), 27 IO (io), 28 IO (io), 29 IO (io), 30 IO (io), 31 IO (io), 32 TDO/IO (io), 33 GND (power), 34 IO (io), 35 IO (io), 36 VCCA (power), 37 VCCI (power), 38 IO (io), 39 IO (io), 40 NC, 41 NC, 42 IO (io), 43 IO (io), 44 VCCA (power), 45 GND (power), 46 GND (power), 47 IO (io), 48 IO (io), 49 IO (io), 50 IO (io), 51 IO (io), 52 VCCI (power), 53 IO (io), 54 IO (io), 55 CLKA (in), 56 CLKB (in), 57 VCCA (power), 58 GND (power), 59 PRA/IO (io), 60 IO (io), 61 VCCI (power), 62 IO (io), 63 IO (io), 64 TCK/IO (io)

## eX64-TQ64I
designator U?
eX64 FPGA, 41 User IOs, 64-Pin TQFP, Speed Grade Standard, Industrial Grade; DatasheetVersion: v4.3, Jun-2006; PackageVersion: ver11.2, Nov-2009; PackageReference: TQ64; PackageDescription: 64-Pin Plastic Quad Flat Pack (TQ64); Code_JEDEC: MS-026-BCD; ComponentLink1Description: Manufacturer URL; ComponentLink1URL: http://www.actel.com/; ComponentLink2Description: eX Datasheet; ComponentLink2URL: http://www.actel.com/documents/eX_DS.pdf; ComponentLink3Description: Package Mechanical Drawings; ComponentLink3URL: http://www.actel.com/documents/PckgMechDrwngs.pdf; ComponentLink4Description: eX Documents; ComponentLink4URL: http://www.actel.com/products/ex/docs.aspx
footprint TQ64_N (Thin QFP, 64-Leads, Body 10x10mm, Pitch 0.5mm, IPC Medium Density)
footprint TQ64_L (Thin QFP, 64-Leads, Body 10x10mm, Pitch 0.5mm, IPC High Density)
footprint TQ64_M (Thin QFP, 64-Leads, Body 10x10mm, Pitch 0.5mm, IPC Low Density)
pins: 1 GND (power), 2 TDI/IO (io), 3 IO (io), 4 TMS (in), 5 GND (power), 6 VCCI (power), 7 IO (io), 8 IO (io), 9 NC, 10 NC, 11 ~{TRST}/IO (io), 12 IO (io), 13 NC, 14 GND (power), 15 IO (io), 16 IO (io), 17 IO (io), 18 IO (io), 19 VCCI (power), 20 IO (io), 21 PRB/IO (io), 22 VCCA (power), 23 GND (power), 24 IO (io), 25 HCLK (in), 26 IO (io), 27 IO (io), 28 IO (io), 29 IO (io), 30 IO (io), 31 IO (io), 32 TDO/IO (io), 33 GND (power), 34 IO (io), 35 IO (io), 36 VCCA (power), 37 VCCI (power), 38 IO (io), 39 IO (io), 40 NC, 41 NC, 42 IO (io), 43 IO (io), 44 VCCA (power), 45 GND/LP (power), 46 GND (power), 47 IO (io), 48 IO (io), 49 IO (io), 50 IO (io), 51 IO (io), 52 VCCI (power), 53 IO (io), 54 IO (io), 55 CLKA (in), 56 CLKB (in), 57 VCCA (power), 58 GND (power), 59 PRA/IO (io), 60 IO (io), 61 VCCI (power), 62 IO (io), 63 IO (io), 64 TCK/IO (io)

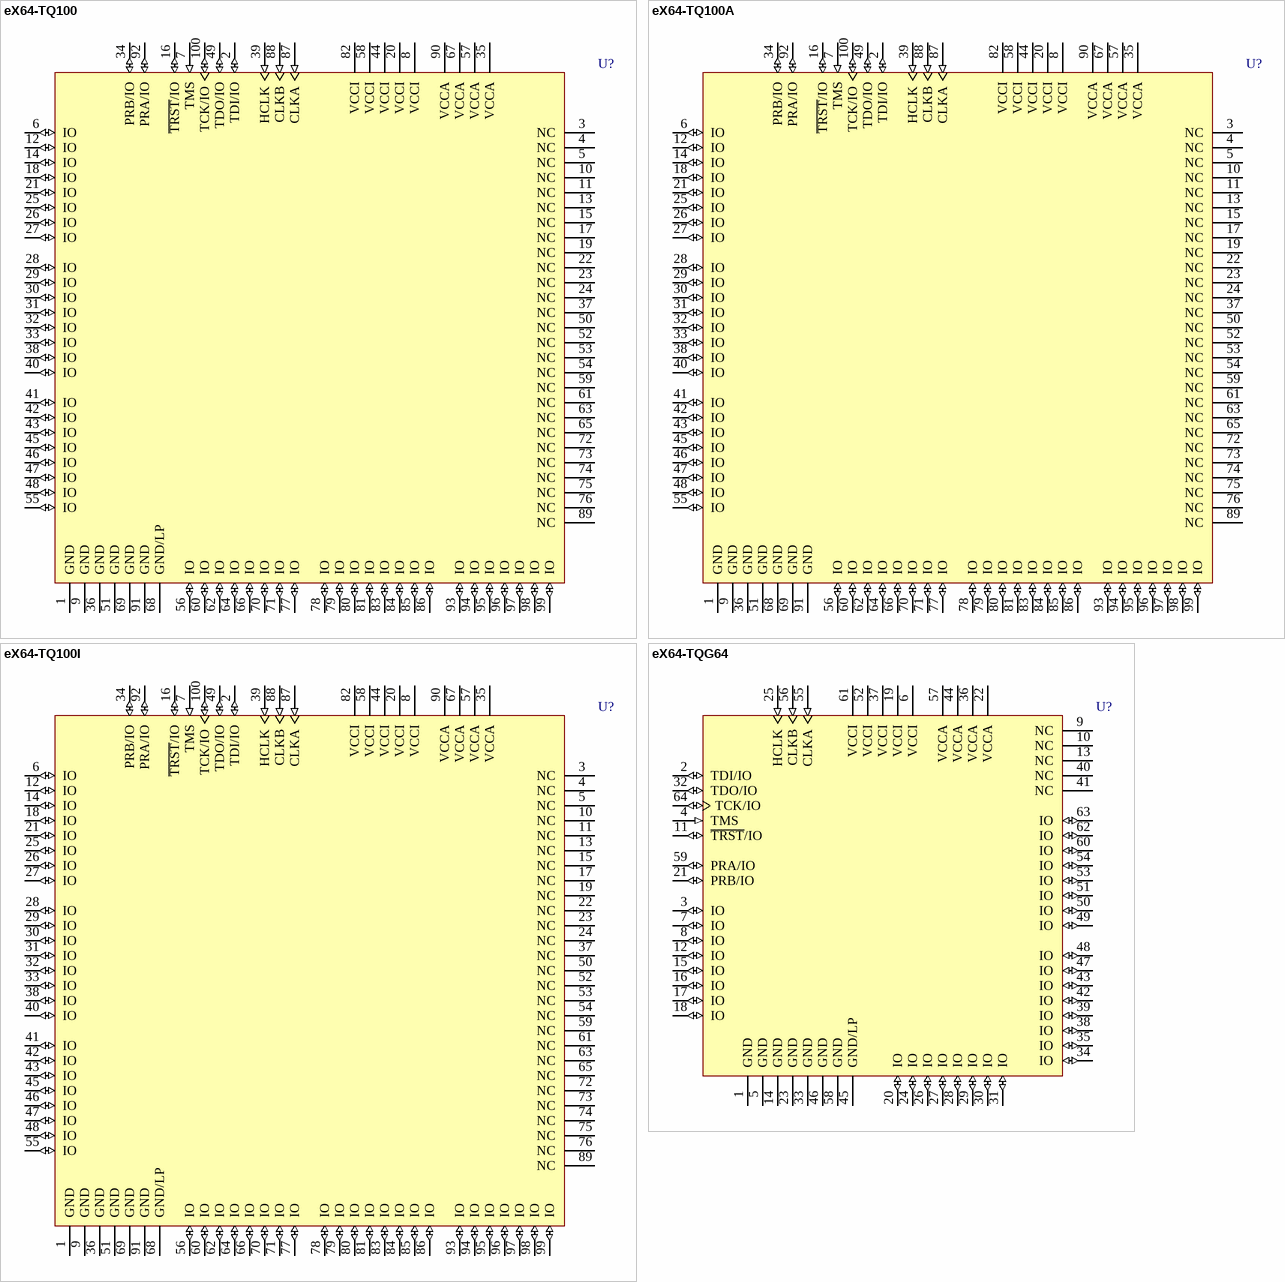
[diagram p9: symbols eX64-TQ100 to eX64-TQG64]

## eX64-TQ100
designator U?
eX64 FPGA, 56 User IOs, 100-Pin TQFP, Speed Grade Standard, Commercial Grade; DatasheetVersion: v4.3, Jun-2006; PackageVersion: ver11.2, Nov-2009; PackageReference: TQ100; PackageDescription: 100-Pin Plastic Quad Flat Pack (TQ100); Code_JEDEC: MS-026-BED; ComponentLink1Description: Manufacturer URL; ComponentLink1URL: http://www.actel.com/; ComponentLink2Description: eX Datasheet; ComponentLink2URL: http://www.actel.com/documents/eX_DS.pdf; ComponentLink3Description: Package Mechanical Drawings; ComponentLink3URL: http://www.actel.com/documents/PckgMechDrwngs.pdf; ComponentLink4Description: eX Documents; ComponentLink4URL: http://www.actel.com/products/ex/docs.aspx
footprint TQ100_N (Thin QFP, 100-Leads, Body 14x14mm, Pitch 0.5mm, IPC Medium Density)
footprint TQ100_L (Thin QFP, 100-Leads, Body 14x14mm, Pitch 0.5mm, IPC High Density)
footprint TQ100_M (Thin QFP, 100-Leads, Body 14x14mm, Pitch 0.5mm, IPC Low Density)
pins: 1 GND (power), 2 TDI/IO (io), 3 NC, 4 NC, 5 NC, 6 IO (io), 7 TMS (in), 8 VCCI (power), 9 GND (power), 10 NC, 11 NC, 12 IO (io), 13 NC, 14 IO (io), 15 NC, 16 ~{TRST}/IO (io), 17 NC, 18 IO (io), 19 NC, 20 VCCI (power), 21 IO (io), 22 NC, 23 NC, 24 NC, 25 IO (io), 26 IO (io), 27 IO (io), 28 IO (io), 29 IO (io), 30 IO (io), 31 IO (io), 32 IO (io), 33 IO (io), 34 PRB/IO (io), 35 VCCA (power), 36 GND (power), 37 NC, 38 IO (io), 39 HCLK (in), 40 IO (io), 41 IO (io), 42 IO (io), 43 IO (io), 44 VCCI (power), 45 IO (io), 46 IO (io), 47 IO (io), 48 IO (io), 49 TDO/IO (io), 50 NC, 51 GND (power), 52 NC, 53 NC, 54 NC, 55 IO (io), 56 IO (io), 57 VCCA (power), 58 VCCI (power), 59 NC, 60 IO (io), 61 NC, 62 IO (io), 63 NC, 64 IO (io), 65 NC, 66 IO (io), 67 VCCA (power), 68 GND/LP (power), 69 GND (power), 70 IO (io), 71 IO (io), 72 NC, 73 NC, 74 NC, 75 NC, 76 NC, 77 IO (io), 78 IO (io), 79 IO (io), 80 IO (io), 81 IO (io), 82 VCCI (power), 83 IO (io), 84 IO (io), 85 IO (io), 86 IO (io), 87 CLKA (in), 88 CLKB (in), 89 NC, 90 VCCA (power), 91 GND (power), 92 PRA/IO (io), 93 IO (io), 94 IO (io), 95 IO (io), 96 IO (io), 97 IO (io), 98 IO (io), 99 IO (io), 100 TCK/IO (io)

## eX64-TQ100A
designator U?
eX64 FPGA, 56 User IOs, 100-Pin TQFP, Speed Grade Standard, Automotive Grade; DatasheetVersion: v3.2, Jun-2006; PackageVersion: ver11.2, Nov-2009; PackageReference: TQ100; PackageDescription: 100-Pin Plastic Quad Flat Pack (TQ100); Code_JEDEC: MS-026-BED; ComponentLink1Description: Manufacturer URL; ComponentLink1URL: http://www.actel.com/; ComponentLink2Description: eX Datasheet; ComponentLink2URL: http://www.actel.com/documents/MX_Auto_DS.pdf; ComponentLink3Description: Package Mechanical Drawings; ComponentLink3URL: http://www.actel.com/documents/PckgMechDrwngs.pdf; ComponentLink4Description: eX Documents; ComponentLink4URL: http://www.actel.com/products/ex/docs.aspx
footprint TQ100_N (Thin QFP, 100-Leads, Body 14x14mm, Pitch 0.5mm, IPC Medium Density)
footprint TQ100_L (Thin QFP, 100-Leads, Body 14x14mm, Pitch 0.5mm, IPC High Density)
footprint TQ100_M (Thin QFP, 100-Leads, Body 14x14mm, Pitch 0.5mm, IPC Low Density)
pins: 1 GND (power), 2 TDI/IO (io), 3 NC, 4 NC, 5 NC, 6 IO (io), 7 TMS (in), 8 VCCI (power), 9 GND (power), 10 NC, 11 NC, 12 IO (io), 13 NC, 14 IO (io), 15 NC, 16 ~{TRST}/IO (io), 17 NC, 18 IO (io), 19 NC, 20 VCCI (power), 21 IO (io), 22 NC, 23 NC, 24 NC, 25 IO (io), 26 IO (io), 27 IO (io), 28 IO (io), 29 IO (io), 30 IO (io), 31 IO (io), 32 IO (io), 33 IO (io), 34 PRB/IO (io), 35 VCCA (power), 36 GND (power), 37 NC, 38 IO (io), 39 HCLK (in), 40 IO (io), 41 IO (io), 42 IO (io), 43 IO (io), 44 VCCI (power), 45 IO (io), 46 IO (io), 47 IO (io), 48 IO (io), 49 TDO/IO (io), 50 NC, 51 GND (power), 52 NC, 53 NC, 54 NC, 55 IO (io), 56 IO (io), 57 VCCA (power), 58 VCCI (power), 59 NC, 60 IO (io), 61 NC, 62 IO (io), 63 NC, 64 IO (io), 65 NC, 66 IO (io), 67 VCCA (power), 68 GND (power), 69 GND (power), 70 IO (io), 71 IO (io), 72 NC, 73 NC, 74 NC, 75 NC, 76 NC, 77 IO (io), 78 IO (io), 79 IO (io), 80 IO (io), 81 IO (io), 82 VCCI (power), 83 IO (io), 84 IO (io), 85 IO (io), 86 IO (io), 87 CLKA (in), 88 CLKB (in), 89 NC, 90 VCCA (power), 91 GND (power), 92 PRA/IO (io), 93 IO (io), 94 IO (io), 95 IO (io), 96 IO (io), 97 IO (io), 98 IO (io), 99 IO (io), 100 TCK/IO (io)

## eX64-TQ100I
designator U?
eX64 FPGA, 56 User IOs, 100-Pin TQFP, Speed Grade Standard, Industrial Grade; DatasheetVersion: v4.3, Jun-2006; PackageVersion: ver11.2, Nov-2009; PackageReference: TQ100; PackageDescription: 100-Pin Plastic Quad Flat Pack (TQ100); Code_JEDEC: MS-026-BED; ComponentLink1Description: Manufacturer URL; ComponentLink1URL: http://www.actel.com/; ComponentLink2Description: eX Datasheet; ComponentLink2URL: http://www.actel.com/documents/eX_DS.pdf; ComponentLink3Description: Package Mechanical Drawings; ComponentLink3URL: http://www.actel.com/documents/PckgMechDrwngs.pdf; ComponentLink4Description: eX Documents; ComponentLink4URL: http://www.actel.com/products/ex/docs.aspx
footprint TQ100_N (Thin QFP, 100-Leads, Body 14x14mm, Pitch 0.5mm, IPC Medium Density)
footprint TQ100_L (Thin QFP, 100-Leads, Body 14x14mm, Pitch 0.5mm, IPC High Density)
footprint TQ100_M (Thin QFP, 100-Leads, Body 14x14mm, Pitch 0.5mm, IPC Low Density)
pins: 1 GND (power), 2 TDI/IO (io), 3 NC, 4 NC, 5 NC, 6 IO (io), 7 TMS (in), 8 VCCI (power), 9 GND (power), 10 NC, 11 NC, 12 IO (io), 13 NC, 14 IO (io), 15 NC, 16 ~{TRST}/IO (io), 17 NC, 18 IO (io), 19 NC, 20 VCCI (power), 21 IO (io), 22 NC, 23 NC, 24 NC, 25 IO (io), 26 IO (io), 27 IO (io), 28 IO (io), 29 IO (io), 30 IO (io), 31 IO (io), 32 IO (io), 33 IO (io), 34 PRB/IO (io), 35 VCCA (power), 36 GND (power), 37 NC, 38 IO (io), 39 HCLK (in), 40 IO (io), 41 IO (io), 42 IO (io), 43 IO (io), 44 VCCI (power), 45 IO (io), 46 IO (io), 47 IO (io), 48 IO (io), 49 TDO/IO (io), 50 NC, 51 GND (power), 52 NC, 53 NC, 54 NC, 55 IO (io), 56 IO (io), 57 VCCA (power), 58 VCCI (power), 59 NC, 60 IO (io), 61 NC, 62 IO (io), 63 NC, 64 IO (io), 65 NC, 66 IO (io), 67 VCCA (power), 68 GND/LP (power), 69 GND (power), 70 IO (io), 71 IO (io), 72 NC, 73 NC, 74 NC, 75 NC, 76 NC, 77 IO (io), 78 IO (io), 79 IO (io), 80 IO (io), 81 IO (io), 82 VCCI (power), 83 IO (io), 84 IO (io), 85 IO (io), 86 IO (io), 87 CLKA (in), 88 CLKB (in), 89 NC, 90 VCCA (power), 91 GND (power), 92 PRA/IO (io), 93 IO (io), 94 IO (io), 95 IO (io), 96 IO (io), 97 IO (io), 98 IO (io), 99 IO (io), 100 TCK/IO (io)

## eX64-TQG64
designator U?
eX64 FPGA, 41 User IOs, 64-Pin TQFP, Speed Grade Standard, Commercial Grade, Pb-Free; DatasheetVersion: v4.3, Jun-2006; PackageVersion: ver11.2, Nov-2009; PackageReference: TQ64; PackageDescription: 64-Pin Plastic Quad Flat Pack (TQ64); Code_JEDEC: MS-026-BCD; ComponentLink1Description: Manufacturer URL; ComponentLink1URL: http://www.actel.com/; ComponentLink2Description: eX Datasheet; ComponentLink2URL: http://www.actel.com/documents/eX_DS.pdf; ComponentLink3Description: Package Mechanical Drawings; ComponentLink3URL: http://www.actel.com/documents/PckgMechDrwngs.pdf; ComponentLink4Description: eX Documents; ComponentLink4URL: http://www.actel.com/products/ex/docs.aspx
footprint TQ64_N (Thin QFP, 64-Leads, Body 10x10mm, Pitch 0.5mm, IPC Medium Density)
footprint TQ64_L (Thin QFP, 64-Leads, Body 10x10mm, Pitch 0.5mm, IPC High Density)
footprint TQ64_M (Thin QFP, 64-Leads, Body 10x10mm, Pitch 0.5mm, IPC Low Density)
pins: 1 GND (power), 2 TDI/IO (io), 3 IO (io), 4 TMS (in), 5 GND (power), 6 VCCI (power), 7 IO (io), 8 IO (io), 9 NC, 10 NC, 11 ~{TRST}/IO (io), 12 IO (io), 13 NC, 14 GND (power), 15 IO (io), 16 IO (io), 17 IO (io), 18 IO (io), 19 VCCI (power), 20 IO (io), 21 PRB/IO (io), 22 VCCA (power), 23 GND (power), 24 IO (io), 25 HCLK (in), 26 IO (io), 27 IO (io), 28 IO (io), 29 IO (io), 30 IO (io), 31 IO (io), 32 TDO/IO (io), 33 GND (power), 34 IO (io), 35 IO (io), 36 VCCA (power), 37 VCCI (power), 38 IO (io), 39 IO (io), 40 NC, 41 NC, 42 IO (io), 43 IO (io), 44 VCCA (power), 45 GND/LP (power), 46 GND (power), 47 IO (io), 48 IO (io), 49 IO (io), 50 IO (io), 51 IO (io), 52 VCCI (power), 53 IO (io), 54 IO (io), 55 CLKA (in), 56 CLKB (in), 57 VCCA (power), 58 GND (power), 59 PRA/IO (io), 60 IO (io), 61 VCCI (power), 62 IO (io), 63 IO (io), 64 TCK/IO (io)

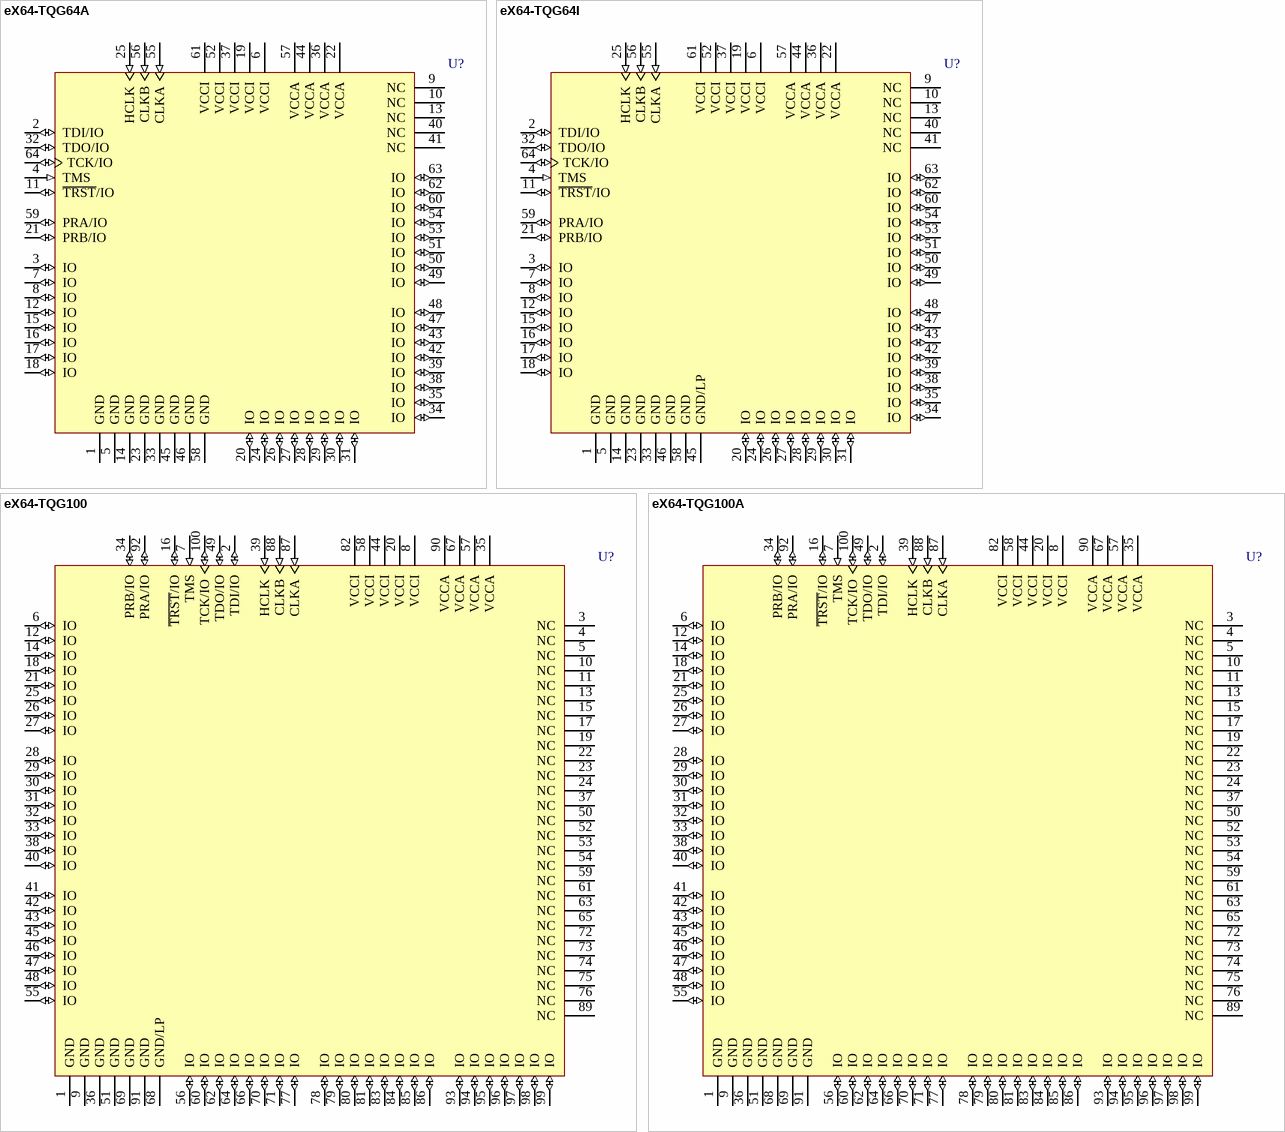
[diagram p10: symbols eX64-TQG64A to eX64-TQG100A]

## eX64-TQG64A
designator U?
eX64 FPGA, 41 User IOs, 64-Pin TQFP, Speed Grade Standard, Automotive Grade, Pb-Free; DatasheetVersion: v3.2, Jun-2006; PackageVersion: ver11.2, Nov-2009; PackageReference: TQ64; PackageDescription: 64-Pin Plastic Quad Flat Pack (TQ64); Code_JEDEC: MS-026-BCD; ComponentLink1Description: Manufacturer URL; ComponentLink1URL: http://www.actel.com/; ComponentLink2Description: eX Datasheet; ComponentLink2URL: http://www.actel.com/documents/MX_Auto_DS.pdf; ComponentLink3Description: Package Mechanical Drawings; ComponentLink3URL: http://www.actel.com/documents/PckgMechDrwngs.pdf; ComponentLink4Description: eX Documents; ComponentLink4URL: http://www.actel.com/products/ex/docs.aspx
footprint TQ64_N (Thin QFP, 64-Leads, Body 10x10mm, Pitch 0.5mm, IPC Medium Density)
footprint TQ64_L (Thin QFP, 64-Leads, Body 10x10mm, Pitch 0.5mm, IPC High Density)
footprint TQ64_M (Thin QFP, 64-Leads, Body 10x10mm, Pitch 0.5mm, IPC Low Density)
pins: 1 GND (power), 2 TDI/IO (io), 3 IO (io), 4 TMS (in), 5 GND (power), 6 VCCI (power), 7 IO (io), 8 IO (io), 9 NC, 10 NC, 11 ~{TRST}/IO (io), 12 IO (io), 13 NC, 14 GND (power), 15 IO (io), 16 IO (io), 17 IO (io), 18 IO (io), 19 VCCI (power), 20 IO (io), 21 PRB/IO (io), 22 VCCA (power), 23 GND (power), 24 IO (io), 25 HCLK (in), 26 IO (io), 27 IO (io), 28 IO (io), 29 IO (io), 30 IO (io), 31 IO (io), 32 TDO/IO (io), 33 GND (power), 34 IO (io), 35 IO (io), 36 VCCA (power), 37 VCCI (power), 38 IO (io), 39 IO (io), 40 NC, 41 NC, 42 IO (io), 43 IO (io), 44 VCCA (power), 45 GND (power), 46 GND (power), 47 IO (io), 48 IO (io), 49 IO (io), 50 IO (io), 51 IO (io), 52 VCCI (power), 53 IO (io), 54 IO (io), 55 CLKA (in), 56 CLKB (in), 57 VCCA (power), 58 GND (power), 59 PRA/IO (io), 60 IO (io), 61 VCCI (power), 62 IO (io), 63 IO (io), 64 TCK/IO (io)

## eX64-TQG64I
designator U?
eX64 FPGA, 41 User IOs, 64-Pin TQFP, Speed Grade Standard, Industrial Grade, Pb-Free; DatasheetVersion: v4.3, Jun-2006; PackageVersion: ver11.2, Nov-2009; PackageReference: TQ64; PackageDescription: 64-Pin Plastic Quad Flat Pack (TQ64); Code_JEDEC: MS-026-BCD; ComponentLink1Description: Manufacturer URL; ComponentLink1URL: http://www.actel.com/; ComponentLink2Description: eX Datasheet; ComponentLink2URL: http://www.actel.com/documents/eX_DS.pdf; ComponentLink3Description: Package Mechanical Drawings; ComponentLink3URL: http://www.actel.com/documents/PckgMechDrwngs.pdf; ComponentLink4Description: eX Documents; ComponentLink4URL: http://www.actel.com/products/ex/docs.aspx
footprint TQ64_N (Thin QFP, 64-Leads, Body 10x10mm, Pitch 0.5mm, IPC Medium Density)
footprint TQ64_L (Thin QFP, 64-Leads, Body 10x10mm, Pitch 0.5mm, IPC High Density)
footprint TQ64_M (Thin QFP, 64-Leads, Body 10x10mm, Pitch 0.5mm, IPC Low Density)
pins: 1 GND (power), 2 TDI/IO (io), 3 IO (io), 4 TMS (in), 5 GND (power), 6 VCCI (power), 7 IO (io), 8 IO (io), 9 NC, 10 NC, 11 ~{TRST}/IO (io), 12 IO (io), 13 NC, 14 GND (power), 15 IO (io), 16 IO (io), 17 IO (io), 18 IO (io), 19 VCCI (power), 20 IO (io), 21 PRB/IO (io), 22 VCCA (power), 23 GND (power), 24 IO (io), 25 HCLK (in), 26 IO (io), 27 IO (io), 28 IO (io), 29 IO (io), 30 IO (io), 31 IO (io), 32 TDO/IO (io), 33 GND (power), 34 IO (io), 35 IO (io), 36 VCCA (power), 37 VCCI (power), 38 IO (io), 39 IO (io), 40 NC, 41 NC, 42 IO (io), 43 IO (io), 44 VCCA (power), 45 GND/LP (power), 46 GND (power), 47 IO (io), 48 IO (io), 49 IO (io), 50 IO (io), 51 IO (io), 52 VCCI (power), 53 IO (io), 54 IO (io), 55 CLKA (in), 56 CLKB (in), 57 VCCA (power), 58 GND (power), 59 PRA/IO (io), 60 IO (io), 61 VCCI (power), 62 IO (io), 63 IO (io), 64 TCK/IO (io)

## eX64-TQG100
designator U?
eX64 FPGA, 56 User IOs, 100-Pin TQFP, Speed Grade Standard, Commercial Grade, Pb-Free; DatasheetVersion: v4.3, Jun-2006; PackageVersion: ver11.2, Nov-2009; PackageReference: TQ100; PackageDescription: 100-Pin Plastic Quad Flat Pack (TQ100); Code_JEDEC: MS-026-BED; ComponentLink1Description: Manufacturer URL; ComponentLink1URL: http://www.actel.com/; ComponentLink2Description: eX Datasheet; ComponentLink2URL: http://www.actel.com/documents/eX_DS.pdf; ComponentLink3Description: Package Mechanical Drawings; ComponentLink3URL: http://www.actel.com/documents/PckgMechDrwngs.pdf; ComponentLink4Description: eX Documents; ComponentLink4URL: http://www.actel.com/products/ex/docs.aspx
footprint TQ100_N (Thin QFP, 100-Leads, Body 14x14mm, Pitch 0.5mm, IPC Medium Density)
footprint TQ100_L (Thin QFP, 100-Leads, Body 14x14mm, Pitch 0.5mm, IPC High Density)
footprint TQ100_M (Thin QFP, 100-Leads, Body 14x14mm, Pitch 0.5mm, IPC Low Density)
pins: 1 GND (power), 2 TDI/IO (io), 3 NC, 4 NC, 5 NC, 6 IO (io), 7 TMS (in), 8 VCCI (power), 9 GND (power), 10 NC, 11 NC, 12 IO (io), 13 NC, 14 IO (io), 15 NC, 16 ~{TRST}/IO (io), 17 NC, 18 IO (io), 19 NC, 20 VCCI (power), 21 IO (io), 22 NC, 23 NC, 24 NC, 25 IO (io), 26 IO (io), 27 IO (io), 28 IO (io), 29 IO (io), 30 IO (io), 31 IO (io), 32 IO (io), 33 IO (io), 34 PRB/IO (io), 35 VCCA (power), 36 GND (power), 37 NC, 38 IO (io), 39 HCLK (in), 40 IO (io), 41 IO (io), 42 IO (io), 43 IO (io), 44 VCCI (power), 45 IO (io), 46 IO (io), 47 IO (io), 48 IO (io), 49 TDO/IO (io), 50 NC, 51 GND (power), 52 NC, 53 NC, 54 NC, 55 IO (io), 56 IO (io), 57 VCCA (power), 58 VCCI (power), 59 NC, 60 IO (io), 61 NC, 62 IO (io), 63 NC, 64 IO (io), 65 NC, 66 IO (io), 67 VCCA (power), 68 GND/LP (power), 69 GND (power), 70 IO (io), 71 IO (io), 72 NC, 73 NC, 74 NC, 75 NC, 76 NC, 77 IO (io), 78 IO (io), 79 IO (io), 80 IO (io), 81 IO (io), 82 VCCI (power), 83 IO (io), 84 IO (io), 85 IO (io), 86 IO (io), 87 CLKA (in), 88 CLKB (in), 89 NC, 90 VCCA (power), 91 GND (power), 92 PRA/IO (io), 93 IO (io), 94 IO (io), 95 IO (io), 96 IO (io), 97 IO (io), 98 IO (io), 99 IO (io), 100 TCK/IO (io)

## eX64-TQG100A
designator U?
eX64 FPGA, 56 User IOs, 100-Pin TQFP, Speed Grade Standard, Automotive Grade, Pb-Free; DatasheetVersion: v3.2, Jun-2006; PackageVersion: ver11.2, Nov-2009; PackageReference: TQ100; PackageDescription: 100-Pin Plastic Quad Flat Pack (TQ100); Code_JEDEC: MS-026-BED; ComponentLink1Description: Manufacturer URL; ComponentLink1URL: http://www.actel.com/; ComponentLink2Description: eX Datasheet; ComponentLink2URL: http://www.actel.com/documents/MX_Auto_DS.pdf; ComponentLink3Description: Package Mechanical Drawings; ComponentLink3URL: http://www.actel.com/documents/PckgMechDrwngs.pdf; ComponentLink4Description: eX Documents; ComponentLink4URL: http://www.actel.com/products/ex/docs.aspx
footprint TQ100_N (Thin QFP, 100-Leads, Body 14x14mm, Pitch 0.5mm, IPC Medium Density)
footprint TQ100_L (Thin QFP, 100-Leads, Body 14x14mm, Pitch 0.5mm, IPC High Density)
footprint TQ100_M (Thin QFP, 100-Leads, Body 14x14mm, Pitch 0.5mm, IPC Low Density)
pins: 1 GND (power), 2 TDI/IO (io), 3 NC, 4 NC, 5 NC, 6 IO (io), 7 TMS (in), 8 VCCI (power), 9 GND (power), 10 NC, 11 NC, 12 IO (io), 13 NC, 14 IO (io), 15 NC, 16 ~{TRST}/IO (io), 17 NC, 18 IO (io), 19 NC, 20 VCCI (power), 21 IO (io), 22 NC, 23 NC, 24 NC, 25 IO (io), 26 IO (io), 27 IO (io), 28 IO (io), 29 IO (io), 30 IO (io), 31 IO (io), 32 IO (io), 33 IO (io), 34 PRB/IO (io), 35 VCCA (power), 36 GND (power), 37 NC, 38 IO (io), 39 HCLK (in), 40 IO (io), 41 IO (io), 42 IO (io), 43 IO (io), 44 VCCI (power), 45 IO (io), 46 IO (io), 47 IO (io), 48 IO (io), 49 TDO/IO (io), 50 NC, 51 GND (power), 52 NC, 53 NC, 54 NC, 55 IO (io), 56 IO (io), 57 VCCA (power), 58 VCCI (power), 59 NC, 60 IO (io), 61 NC, 62 IO (io), 63 NC, 64 IO (io), 65 NC, 66 IO (io), 67 VCCA (power), 68 GND (power), 69 GND (power), 70 IO (io), 71 IO (io), 72 NC, 73 NC, 74 NC, 75 NC, 76 NC, 77 IO (io), 78 IO (io), 79 IO (io), 80 IO (io), 81 IO (io), 82 VCCI (power), 83 IO (io), 84 IO (io), 85 IO (io), 86 IO (io), 87 CLKA (in), 88 CLKB (in), 89 NC, 90 VCCA (power), 91 GND (power), 92 PRA/IO (io), 93 IO (io), 94 IO (io), 95 IO (io), 96 IO (io), 97 IO (io), 98 IO (io), 99 IO (io), 100 TCK/IO (io)

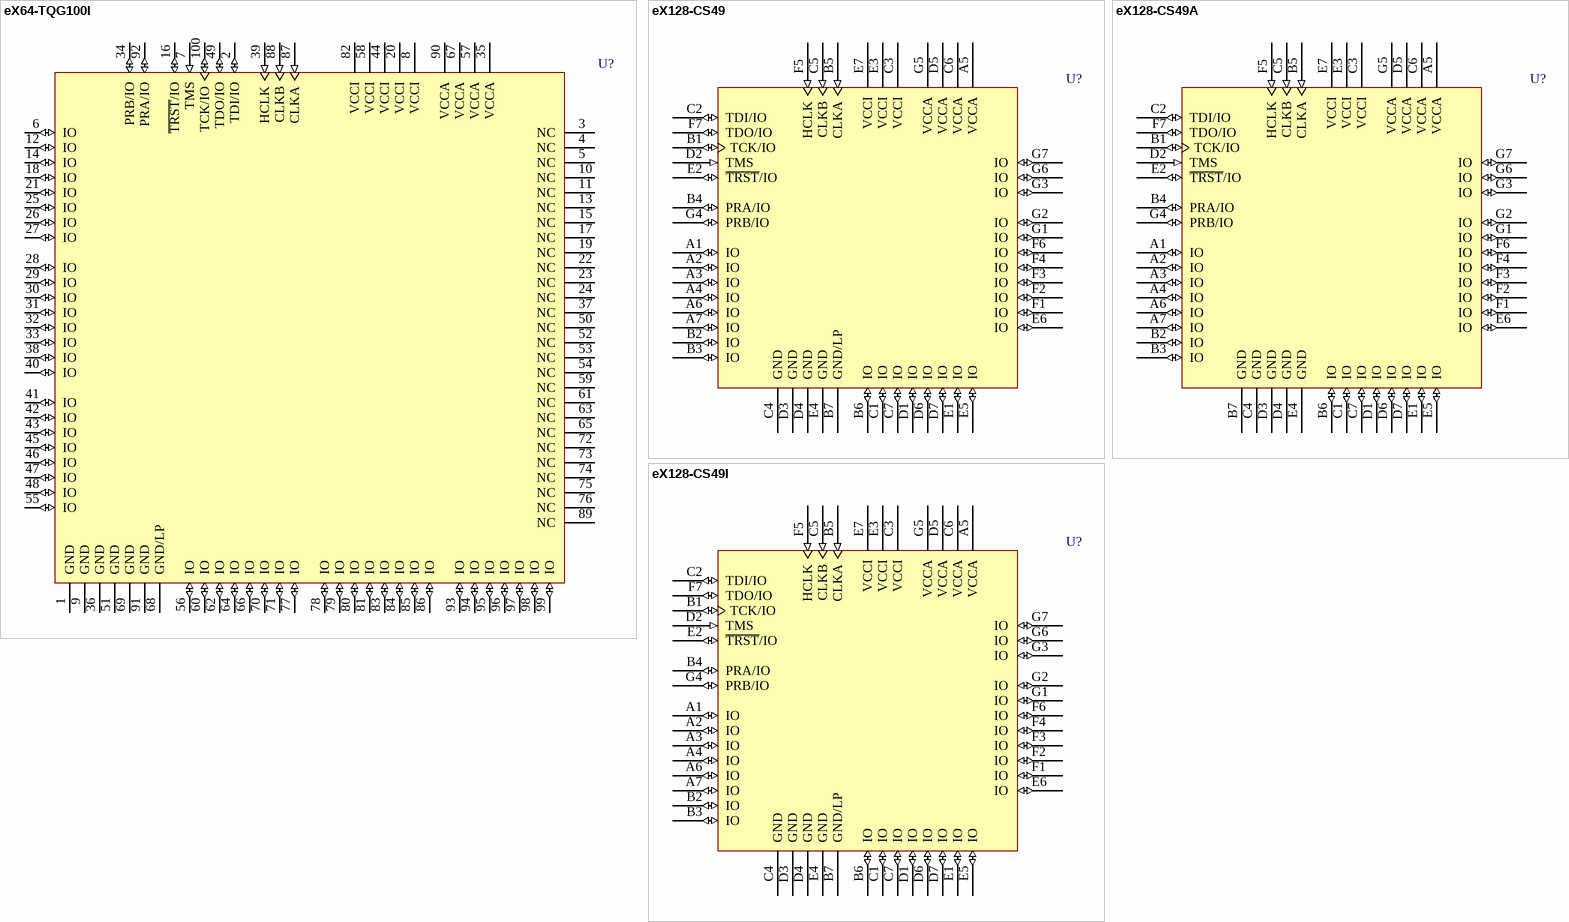
[diagram p11: symbols eX64-TQG100I to eX128-CS49I]

## eX64-TQG100I
designator U?
eX64 FPGA, 56 User IOs, 100-Pin TQFP, Speed Grade Standard, Industrial Grade, Pb-Free; DatasheetVersion: v4.3, Jun-2006; PackageVersion: ver11.2, Nov-2009; PackageReference: TQ100; PackageDescription: 100-Pin Plastic Quad Flat Pack (TQ100); Code_JEDEC: MS-026-BED; ComponentLink1Description: Manufacturer URL; ComponentLink1URL: http://www.actel.com/; ComponentLink2Description: eX Datasheet; ComponentLink2URL: http://www.actel.com/documents/eX_DS.pdf; ComponentLink3Description: Package Mechanical Drawings; ComponentLink3URL: http://www.actel.com/documents/PckgMechDrwngs.pdf; ComponentLink4Description: eX Documents; ComponentLink4URL: http://www.actel.com/products/ex/docs.aspx
footprint TQ100_N (Thin QFP, 100-Leads, Body 14x14mm, Pitch 0.5mm, IPC Medium Density)
footprint TQ100_L (Thin QFP, 100-Leads, Body 14x14mm, Pitch 0.5mm, IPC High Density)
footprint TQ100_M (Thin QFP, 100-Leads, Body 14x14mm, Pitch 0.5mm, IPC Low Density)
pins: 1 GND (power), 2 TDI/IO (io), 3 NC, 4 NC, 5 NC, 6 IO (io), 7 TMS (in), 8 VCCI (power), 9 GND (power), 10 NC, 11 NC, 12 IO (io), 13 NC, 14 IO (io), 15 NC, 16 ~{TRST}/IO (io), 17 NC, 18 IO (io), 19 NC, 20 VCCI (power), 21 IO (io), 22 NC, 23 NC, 24 NC, 25 IO (io), 26 IO (io), 27 IO (io), 28 IO (io), 29 IO (io), 30 IO (io), 31 IO (io), 32 IO (io), 33 IO (io), 34 PRB/IO (io), 35 VCCA (power), 36 GND (power), 37 NC, 38 IO (io), 39 HCLK (in), 40 IO (io), 41 IO (io), 42 IO (io), 43 IO (io), 44 VCCI (power), 45 IO (io), 46 IO (io), 47 IO (io), 48 IO (io), 49 TDO/IO (io), 50 NC, 51 GND (power), 52 NC, 53 NC, 54 NC, 55 IO (io), 56 IO (io), 57 VCCA (power), 58 VCCI (power), 59 NC, 60 IO (io), 61 NC, 62 IO (io), 63 NC, 64 IO (io), 65 NC, 66 IO (io), 67 VCCA (power), 68 GND/LP (power), 69 GND (power), 70 IO (io), 71 IO (io), 72 NC, 73 NC, 74 NC, 75 NC, 76 NC, 77 IO (io), 78 IO (io), 79 IO (io), 80 IO (io), 81 IO (io), 82 VCCI (power), 83 IO (io), 84 IO (io), 85 IO (io), 86 IO (io), 87 CLKA (in), 88 CLKB (in), 89 NC, 90 VCCA (power), 91 GND (power), 92 PRA/IO (io), 93 IO (io), 94 IO (io), 95 IO (io), 96 IO (io), 97 IO (io), 98 IO (io), 99 IO (io), 100 TCK/IO (io)

## eX128-CS49
designator U?
eX128 FPGA, 36 User IOs, 49-Pin CSP, Speed Grade Standard, Commercial Grade; DatasheetVersion: v4.3, Jun-2006; PackageVersion: ver11.2, Nov-2009; PackageReference: CS49; PackageDescription: 49-Ball Chip Scale Package (CS49); Code_JEDEC: MO-205; ComponentLink1Description: Manufacturer URL; ComponentLink1URL: http://www.actel.com/; ComponentLink2Description: eX Datasheet; ComponentLink2URL: http://www.actel.com/documents/eX_DS.pdf; ComponentLink3Description: Package Mechanical Drawings; ComponentLink3URL: http://www.actel.com/documents/PckgMechDrwngs.pdf; ComponentLink4Description: eX Documents; ComponentLink4URL: http://www.actel.com/products/ex/docs.aspx
footprint CS49 (BGA, 49-Leads, Body 7x7mm, Pitch 0.8mm)
pins: A1 IO (io), A2 IO (io), A3 IO (io), A4 IO (io), A5 VCCA (power), A6 IO (io), A7 IO (io), B1 TCK/IO (io), B2 IO (io), B3 IO (io), B4 PRA/IO (io), B5 CLKA (in), B6 IO (io), B7 GND/LP (power), C1 IO (io), C2 TDI/IO (io), C3 VCCI (power), C4 GND (power), C5 CLKB (in), C6 VCCA (power), C7 IO (io), D1 IO (io), D2 TMS (in), D3 GND (power), D4 GND (power), D5 VCCA (power), D6 IO (io), D7 IO (io), E1 IO (io), E2 ~{TRST}/IO (io), E3 VCCI (power), E4 GND (power), E5 IO (io), E6 IO (io), E7 VCCI (power), F1 IO (io), F2 IO (io), F3 IO (io), F4 IO (io), F5 HCLK (in), F6 IO (io), F7 TDO/IO (io), G1 IO (io), G2 IO (io), G3 IO (io), G4 PRB/IO (io), G5 VCCA (power), G6 IO (io), G7 IO (io)

## eX128-CS49A
designator U?
eX128 FPGA, 36 User IOs, 49-Pin CSP, Speed Grade Standard, Automotive Grade; DatasheetVersion: v3.2, Jun-2006; PackageVersion: ver11.2, Nov-2009; PackageReference: CS49; PackageDescription: 49-Ball Chip Scale Package (CS49); Code_JEDEC: MO-205; ComponentLink1Description: Manufacturer URL; ComponentLink1URL: http://www.actel.com/; ComponentLink2Description: eX Datasheet; ComponentLink2URL: http://www.actel.com/documents/MX_Auto_DS.pdf; ComponentLink3Description: Package Mechanical Drawings; ComponentLink3URL: http://www.actel.com/documents/PckgMechDrwngs.pdf; ComponentLink4Description: eX Documents; ComponentLink4URL: http://www.actel.com/products/ex/docs.aspx
footprint CS49 (BGA, 49-Leads, Body 7x7mm, Pitch 0.8mm)
pins: A1 IO (io), A2 IO (io), A3 IO (io), A4 IO (io), A5 VCCA (power), A6 IO (io), A7 IO (io), B1 TCK/IO (io), B2 IO (io), B3 IO (io), B4 PRA/IO (io), B5 CLKA (in), B6 IO (io), B7 GND (power), C1 IO (io), C2 TDI/IO (io), C3 VCCI (power), C4 GND (power), C5 CLKB (in), C6 VCCA (power), C7 IO (io), D1 IO (io), D2 TMS (in), D3 GND (power), D4 GND (power), D5 VCCA (power), D6 IO (io), D7 IO (io), E1 IO (io), E2 ~{TRST}/IO (io), E3 VCCI (power), E4 GND (power), E5 IO (io), E6 IO (io), E7 VCCI (power), F1 IO (io), F2 IO (io), F3 IO (io), F4 IO (io), F5 HCLK (in), F6 IO (io), F7 TDO/IO (io), G1 IO (io), G2 IO (io), G3 IO (io), G4 PRB/IO (io), G5 VCCA (power), G6 IO (io), G7 IO (io)

## eX128-CS49I
designator U?
eX128 FPGA, 36 User IOs, 49-Pin CSP, Speed Grade Standard, Industrial Grade; DatasheetVersion: v4.3, Jun-2006; PackageVersion: ver11.2, Nov-2009; PackageReference: CS49; PackageDescription: 49-Ball Chip Scale Package (CS49); Code_JEDEC: MO-205; ComponentLink1Description: Manufacturer URL; ComponentLink1URL: http://www.actel.com/; ComponentLink2Description: eX Datasheet; ComponentLink2URL: http://www.actel.com/documents/eX_DS.pdf; ComponentLink3Description: Package Mechanical Drawings; ComponentLink3URL: http://www.actel.com/documents/PckgMechDrwngs.pdf; ComponentLink4Description: eX Documents; ComponentLink4URL: http://www.actel.com/products/ex/docs.aspx
footprint CS49 (BGA, 49-Leads, Body 7x7mm, Pitch 0.8mm)
pins: A1 IO (io), A2 IO (io), A3 IO (io), A4 IO (io), A5 VCCA (power), A6 IO (io), A7 IO (io), B1 TCK/IO (io), B2 IO (io), B3 IO (io), B4 PRA/IO (io), B5 CLKA (in), B6 IO (io), B7 GND/LP (power), C1 IO (io), C2 TDI/IO (io), C3 VCCI (power), C4 GND (power), C5 CLKB (in), C6 VCCA (power), C7 IO (io), D1 IO (io), D2 TMS (in), D3 GND (power), D4 GND (power), D5 VCCA (power), D6 IO (io), D7 IO (io), E1 IO (io), E2 ~{TRST}/IO (io), E3 VCCI (power), E4 GND (power), E5 IO (io), E6 IO (io), E7 VCCI (power), F1 IO (io), F2 IO (io), F3 IO (io), F4 IO (io), F5 HCLK (in), F6 IO (io), F7 TDO/IO (io), G1 IO (io), G2 IO (io), G3 IO (io), G4 PRB/IO (io), G5 VCCA (power), G6 IO (io), G7 IO (io)

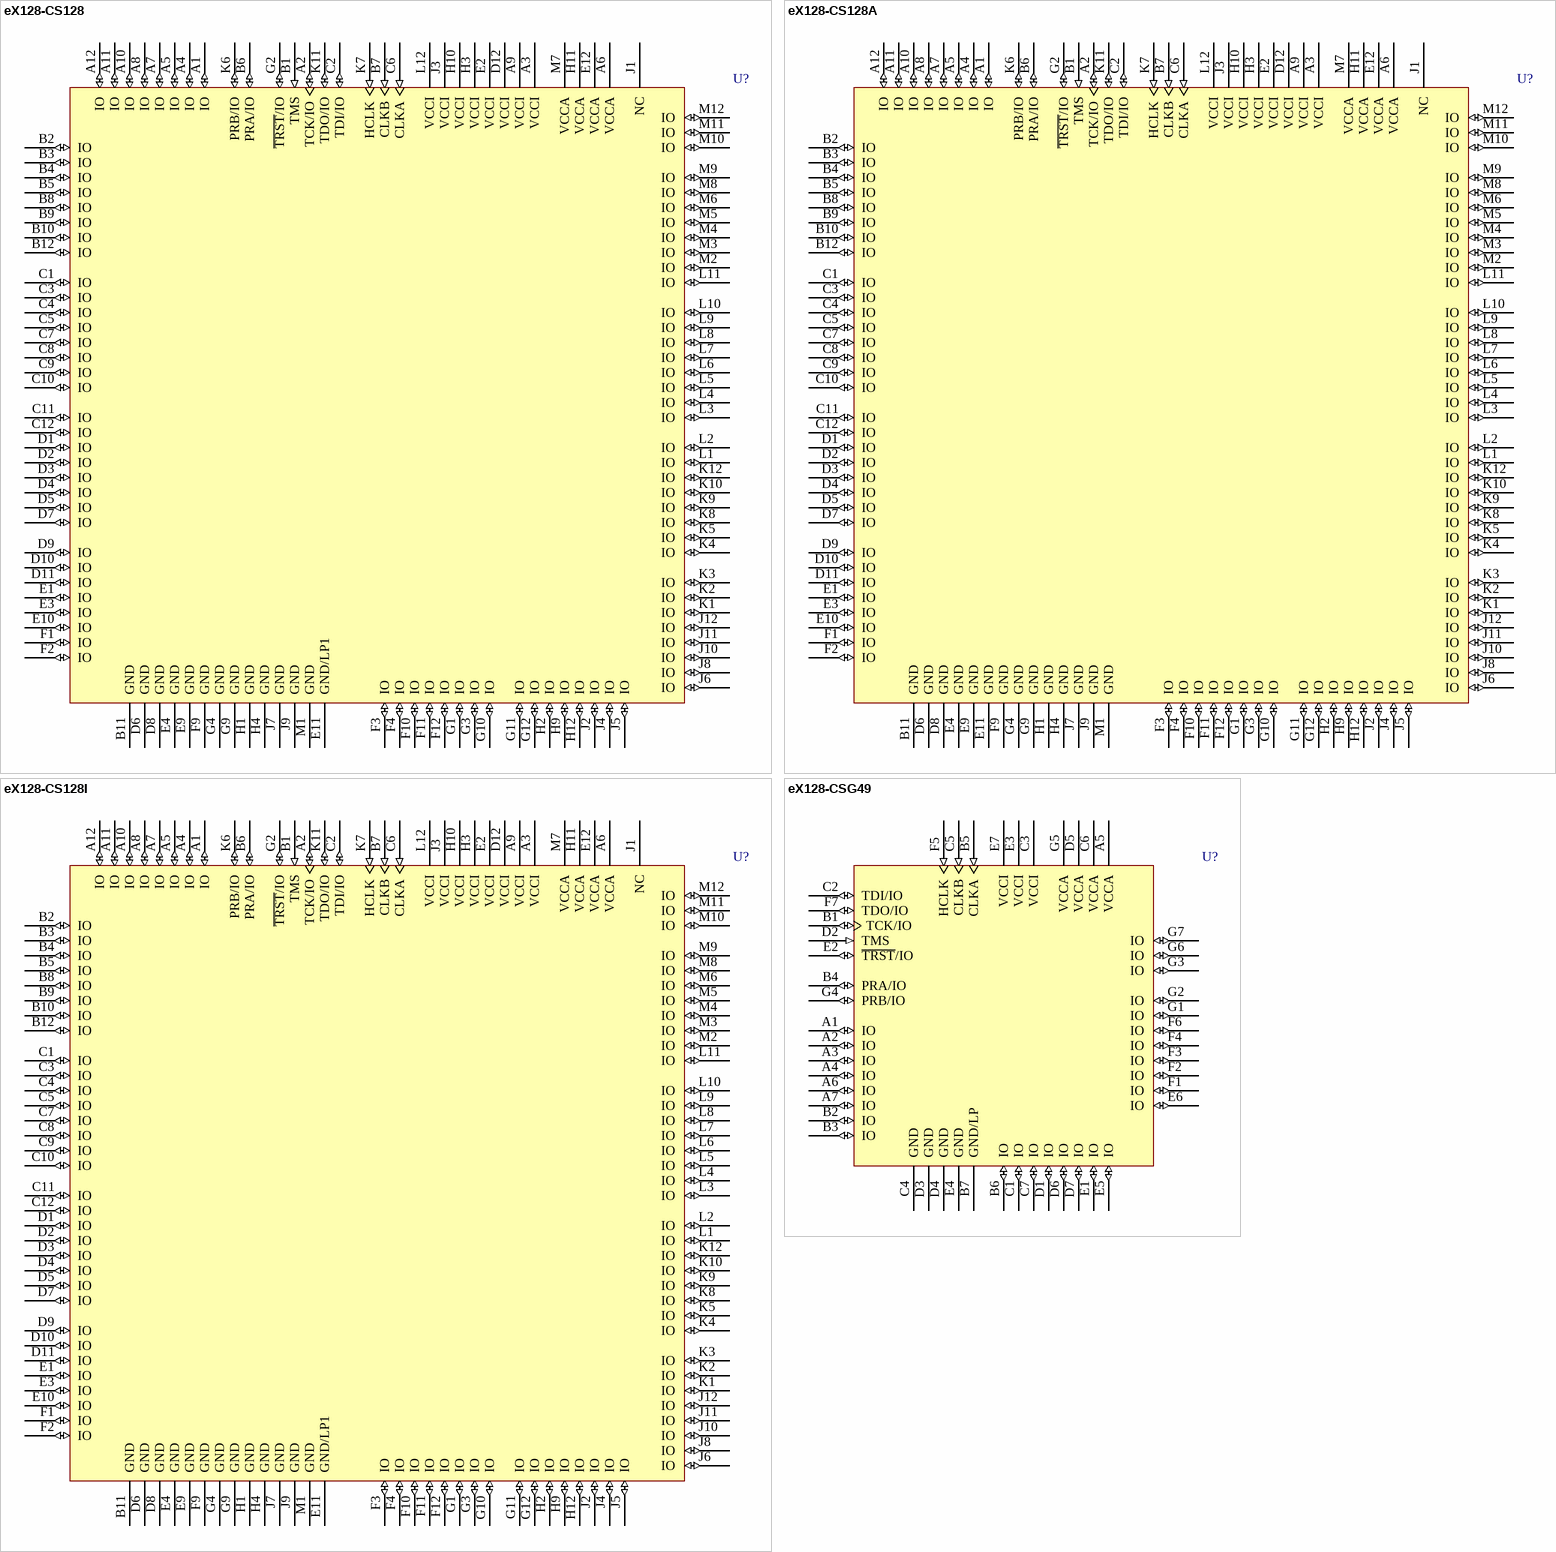
[diagram p12: symbols eX128-CS128 to eX128-CSG49]